# Altium integrated library Renesas Microprocessor SuperH.IntLib: 433 symbols (part 33 of 62)
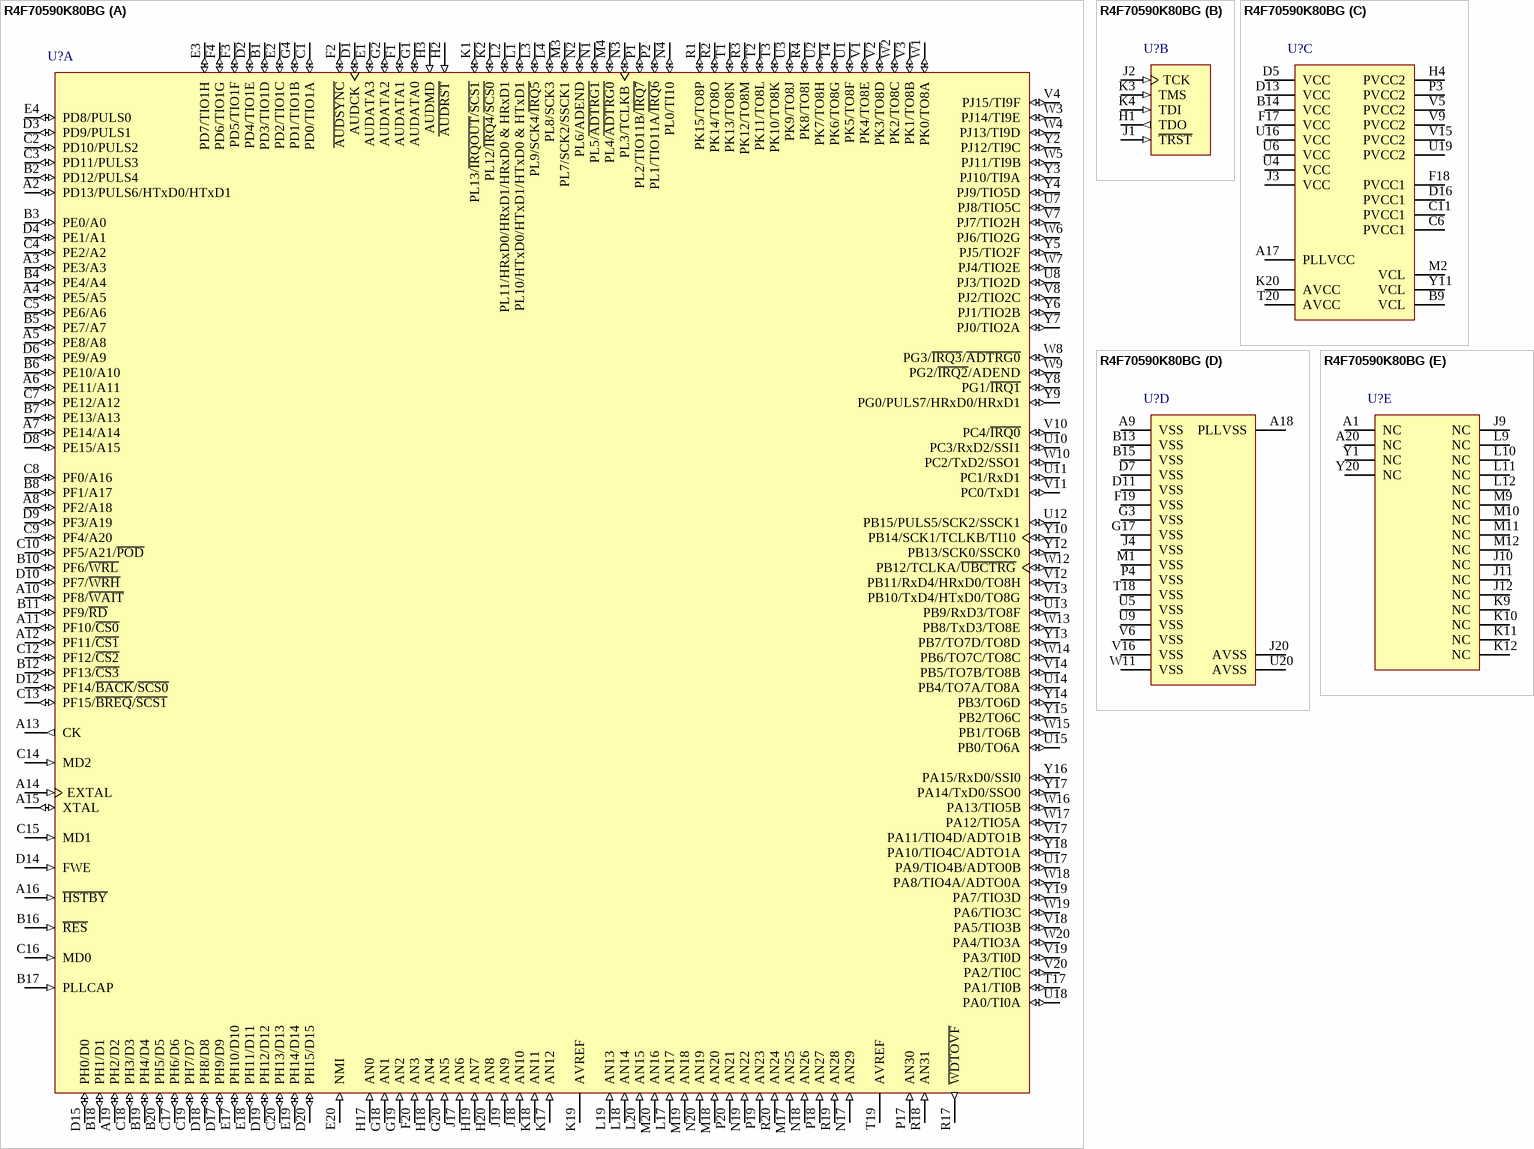
[diagram p302: symbol R4F70590K80BG]

## R4F70590K80BG
designator U?
32-Bit RISC Microcomputer, SH7050 Series, SH-2E core, 80MHz, 1.5M ROM, 80K RAM, 272-pin PBGA, -40 to 125°C; Published: 28-Aug-2009; DatasheetVersion: Rev.4.00, Mar-2009; PackageVersion: Aug-2007; PackageReference: PRBG0272FA-A; Publisher: Altium Limited; PackageDescription: 272-Ball Plastic Ball Grid Array, 21 x 21 mm Body, 1 mm Pitch; Code_JEITA: P-BGA272-21x21-1.00; ComponentLink1Description: Manufacturer Link; ComponentLink1URL: http://www.renesas.com/fmwk.jsp?cnt=sh7059_root.jsp&fp=/products/mpumcu/superh_family/sh7050_series/sh7059_group/; ComponentLink2Description: Datasheet; ComponentLink2URL: http://documentation.renesas.com/eng/products/mpumcu/rej09b0177_7059_58fhm.pdf; ComponentLink3Description: Packaging Specification; ComponentLink3URL: http://sg.renesas.com/media/products/common_info/package/pdf/ic/code/prbg0272fa_a.pdf
footprint PRBG0272FA-A (BGA, 272-Leads, Body 21x21mm, Pitch 1mm)
part A pins: A2 PD13/PULS6/HTxD0/HTxD1 (io), A3 PE3/A3 (io), A4 PE5/A5 (io), A5 PE8/A8 (io), A6 PE11/A11 (io), A7 PE14/A14 (io), A8 PF2/A18 (io), A10 PF8/~{WAIT} (io), A11 PF10/~{CS0} (io), A12 PF11/~{CS1} (io), A13 CK (out), A14 EXTAL (in), A15 XTAL (io), A16 ~{HSTBY} (in), A19 PH2/D2 (io), B1 PD3/TIO1D (io), B2 PD12/PULS4 (io), B3 PE0/A0 (io), B4 PE4/A4 (io), B5 PE7/A7 (io), B6 PE10/A10 (io), B7 PE13/A13 (io), B8 PF1/A17 (io), B10 PF6/~{WRL} (io), B11 PF9/~{RD} (io), B12 PF13/~{CS3} (io), B16 ~{RES} (in), B17 PLLCAP (in), B18 PH1/D1 (io), B19 PH4/D4 (io), B20 PH5/D5 (io), C1 PD0/TIO1A (io), C2 PD10/PULS2 (io), C3 PD11/PULS3 (io), C4 PE2/A2 (io), C5 PE6/A6 (io), C7 PE12/A12 (io), C8 PF0/A16 (io), C9 PF4/A20 (io), C10 PF5/A21/~{POD} (io), C12 PF12/~{CS2} (io), C13 PF15/~{BREQ}/~{SCS1} (io), C14 MD2 (in), C15 MD1 (in), C16 MD0 (in), C17 PH6/D6 (io), C18 PH3/D3 (io), C19 PH7/D7 (io), C20 PH13/D13 (io), D1 AUDCK (io), D2 PD4/TIO1E (io), D3 PD9/PULS1 (io), D4 PE1/A1 (io), D6 PE9/A9 (io), D8 PE15/A15 (io), D9 PF3/A19 (io), D10 PF7/~{WRH} (io), D12 PF14/~{BACK}/~{SCS0} (io), D14 FWE (in), D15 PH0/D0 (io), D17 PH9/D9 (io), D18 PH8/D8 (io), D19 PH12/D12 (io), D20 PH15/D15 (io), E1 AUDATA3 (io), E2 PD2/TIO1C (io), E3 PD7/TIO1H (io), E4 PD8/PULS0 (io), E17 PH10/D10 (io), E18 PH11/D11 (io), E19 PH14/D14 (io), E20 NMI (in), F1 AUDATA1 (io), F2 ~{AUDSYNC} (io), F3 PD5/TIO1F (io), F4 PD6/TIO1G (io), F20 AN3 (in), G1 AUDATA0 (io), G2 AUDATA2 (io), G4 PD1/TIO1B (io), G18 AN1 (in), G19 AN2 (in), G20 AN5 (in), H2 ~{AUDRST} (in), H3 AUDMD (in), H17 AN0 (in), H18 AN4 (in), H19 AN7 (in), H20 AN8 (in), J17 AN6 (in), J18 AN10 (in), J19 AN9 (in), K1 PL13/~{IRQOUT}/~{SCS1} (io), K2 PL12/~{IRQ4}/~{SCS0} (io), K17 AN12 (in), K18 AN11 (in), K19 AVREF (power), L1 PL10/HTxD0/HTxD1/HTxD0 & HTxD1 (io), L2 PL11/HRxD0/HRxD1/HRxD0 & HRxD1 (io), L3 PL9/SCK4/~{IRQ5} (io), L4 PL8/SCK3 (io), L17 AN17 (in), L18 AN14 (in), L19 AN13 (in), L20 AN15 (in), M3 PL7/SCK2/SSCK1 (io), M4 PL4/~{ADTRG0} (io), M17 AN25 (in), M18 AN20 (in), M19 AN18 (in), M20 AN16 (in), N1 PL5/~{ADTRG1} (io), N2 PL6/ADEND (io), N3 PL3/TCLKB (io), N4 PL0/TI10 (io), N17 AN29 (in), N18 AN26 (in), N19 AN22 (in), N20 AN19 (in), P1 PL2/TIO11B/~{IRQ7} (io), P2 PL1/TIO11A/~{IRQ6} (io), P17 AN30 (in), P18 AN27 (in), P19 AN23 (in), P20 AN21 (in), R1 PK15/TO8P (io), R2 PK14/TO8O (io), R3 PK12/TO8M (io), R4 PK8/TO8I (io), R17 ~{WDTOVF} (out), R18 AN31 (in), R19 AN28 (in), R20 AN24 (in), T1 PK13/TO8N (io), T2 PK11/TO8L (io), T3 PK10/TO8K (io), T4 PK6/TO8G (io), T17 PA1/TI0B (io), T19 AVREF (power), U1 PK5/TO8F (io), U2 PK7/TO8H (io), U3 PK9/TO8J (io), U7 PJ8/TIO5C (io), U8 PJ3/TIO2D (io), U10 PC3/RxD2/SSI1 (io), U11 PC1/RxD1 (io), U12 PB15/PULS5/SCK2/SSCK1 (io), U13 PB9/RxD3/TO8F (io), U14 PB4/TO7A/TO8A (io), U15 PB0/TO6A (io), U17 PA9/TIO4B/ADTO0B (io), U18 PA0/TI0A (io), V1 PK4/TO8E (io), V2 PK3/TO8D (io), V3 PK1/TO8B (io), V4 PJ15/TI9F (io), V7 PJ7/TIO2H (io), V8 PJ2/TIO2C (io), V10 PC4/~{IRQ0} (io), V11 PC0/TxD1 (io), V12 PB11/RxD4/HRxD0/TO8H (io), V13 PB10/TxD4/HTxD0/TO8G (io), V14 PB5/TO7B/TO8B (io), V17 PA11/TIO4D/ADTO1B (io), V18 PA5/TIO3B (io), V19 PA3/TI0D (io), V20 PA2/TI0C (io), W1 PK0/TO8A (io), W2 PK2/TO8C (io), W3 PJ14/TI9E (io), W4 PJ13/TI9D (io), W5 PJ11/TI9B (io), W6 PJ6/TIO2G (io), W7 PJ4/TIO2E (io), W8 PG3/~{IRQ3}/~{ADTRG0} (io), W9 PG2/~{IRQ2}/ADEND (io), W10 PC2/TxD2/SSO1 (io), W12 PB12/TCLKA/~{UBCTRG} (io), W13 PB8/TxD3/TO8E (io), W14 PB6/TO7C/TO8C (io), W15 PB1/TO6B (io), W16 PA13/TIO5B (io), W17 PA12/TIO5A (io), W18 PA8/TIO4A/ADTO0A (io), W19 PA6/TIO3C (io), W20 PA4/TIO3A (io), Y2 PJ12/TI9C (io), Y3 PJ10/TI9A (io), Y4 PJ9/TIO5D (io), Y5 PJ5/TIO2F (io), Y6 PJ1/TIO2B (io), Y7 PJ0/TIO2A (io), Y8 PG1/~{IRQ1} (io), Y9 PG0/PULS7/HRxD0/HRxD1 (io), Y10 PB14/SCK1/TCLKB/TI10 (io), Y12 PB13/SCK0/SSCK0 (io), Y13 PB7/TO7D/TO8D (io), Y14 PB3/TO6D (io), Y15 PB2/TO6C (io), Y16 PA15/RxD0/SSI0 (io), Y17 PA14/TxD0/SSO0 (io), Y18 PA10/TIO4C/ADTO1A (io), Y19 PA7/TIO3D (io)
part B pins: H1 TDO (out), J1 ~{TRST} (in), J2 TCK (in), K3 TMS (in), K4 TDI (in)
part C pins: A17 PLLVCC (power), B9 VCL (power), B14 VCC (power), C6 PVCC1 (power), C11 PVCC1 (power), D5 VCC (power), D13 VCC (power), D16 PVCC1 (power), F17 VCC (power), F18 PVCC1 (power), H4 PVCC2 (power), J3 VCC (power), K20 AVCC (power), M2 VCL (power), P3 PVCC2 (power), T20 AVCC (power), U4 VCC (power), U6 VCC (power), U16 VCC (power), U19 PVCC2 (power), V5 PVCC2 (power), V9 PVCC2 (power), V15 PVCC2 (power), Y11 VCL (power)
part D pins: A9 VSS (power), A18 PLLVSS (power), B13 VSS (power), B15 VSS (power), D7 VSS (power), D11 VSS (power), F19 VSS (power), G3 VSS (power), G17 VSS (power), J4 VSS (power), J20 AVSS (power), M1 VSS (power), P4 VSS (power), T18 VSS (power), U5 VSS (power), U9 VSS (power), U20 AVSS (power), V6 VSS (power), V16 VSS (power), W11 VSS (power)
part E pins: A1 NC, A20 NC, J9 NC, J10 NC, J11 NC, J12 NC, K9 NC, K10 NC, K11 NC, K12 NC, L9 NC, L10 NC, L11 NC, L12 NC, M9 NC, M10 NC, M11 NC, M12 NC, Y1 NC, Y20 NC

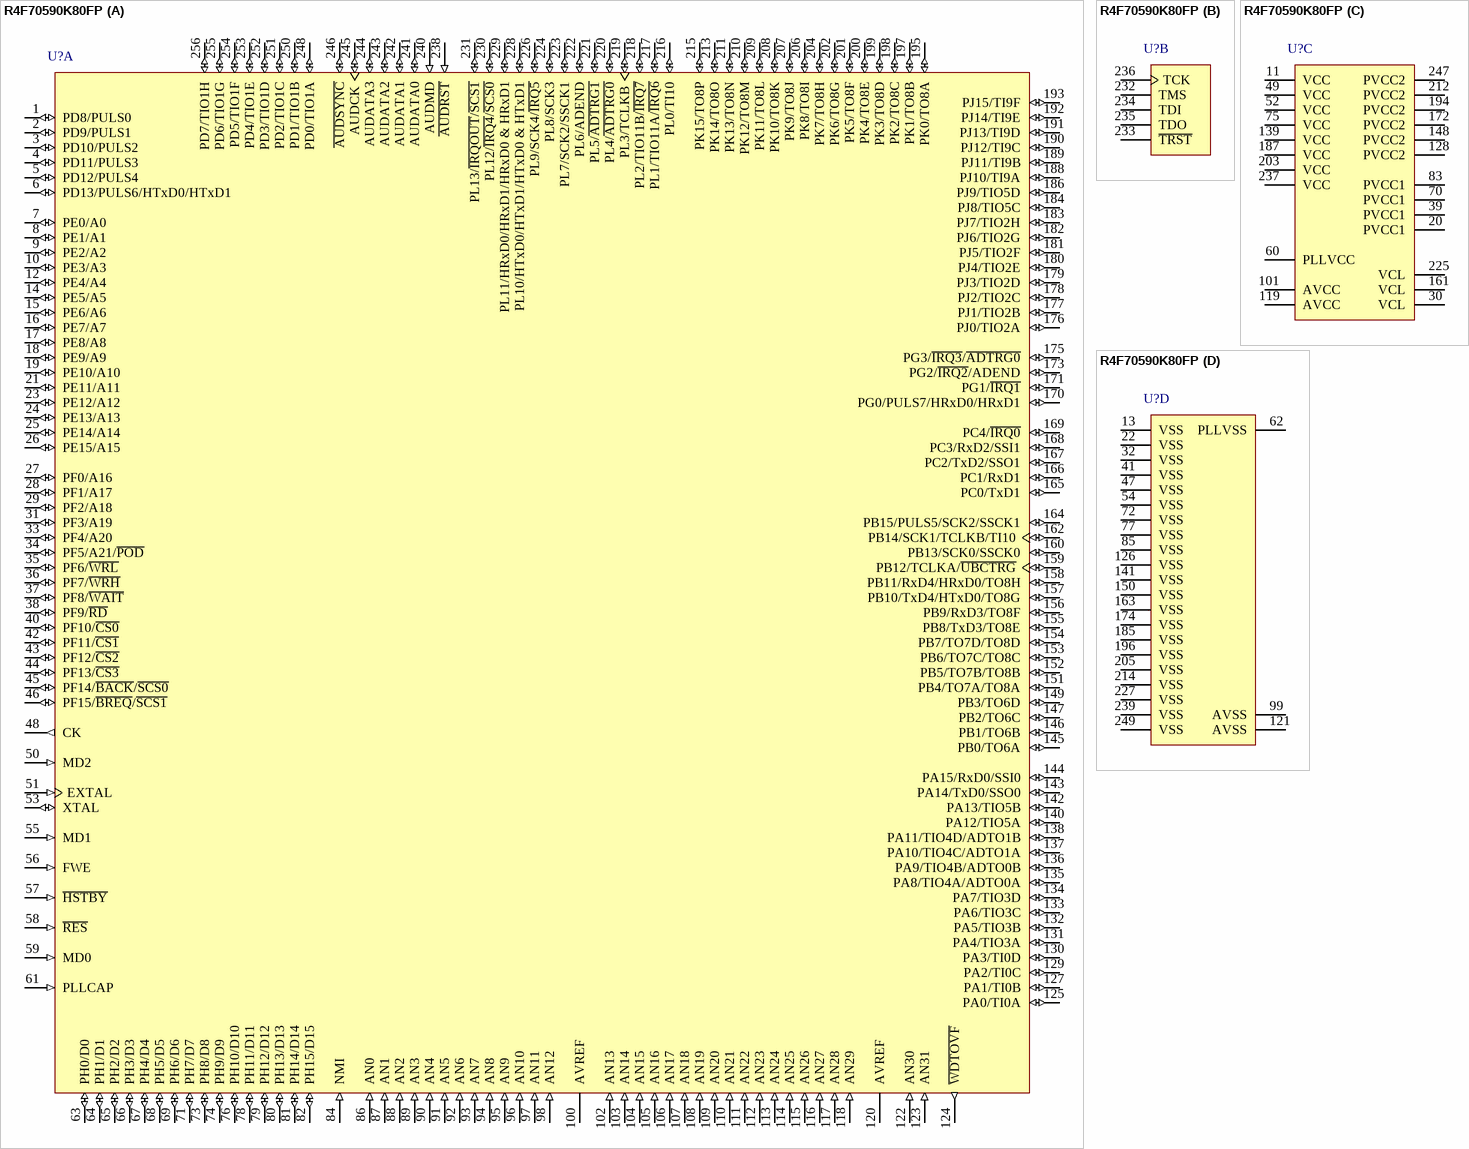
[diagram p119: symbol R4F70590K80FP]

## R4F70590K80FP
designator U?
32-Bit RISC Microcomputer, SH7050 Series, SH-2E core, 80MHz, 1.5M ROM, 80K RAM, 256-pin PQFP, -40 to 125°C; Published: 28-Aug-2009; DatasheetVersion: Rev.4.00, Mar-2009; PackageVersion: Sep-2005; PackageReference: PRQP0256KB-A; Publisher: Altium Limited; PackageDescription: 256-Pin Plastic Quad Flat Pack, 40 x 28 x 3.2 mm Body, 0.5 mm Pitch; Code_JEITA: P-QFP256-28x40-0.50; ComponentLink1Description: Manufacturer Link; ComponentLink1URL: http://www.renesas.com/fmwk.jsp?cnt=sh7059_root.jsp&fp=/products/mpumcu/superh_family/sh7050_series/sh7059_group/; ComponentLink2Description: Datasheet; ComponentLink2URL: http://documentation.renesas.com/eng/products/mpumcu/rej09b0177_7059_58fhm.pdf; ComponentLink3Description: Packaging Specification; ComponentLink3URL: http://sg.renesas.com/media/products/common_info/package/pdf/ic/code/prqp0256kb_a.pdf
footprint PRQP0256KB-A_N (Shrink QFP, 256-Leads, Body 40x28 mm, Pitch 0.5mm, IPC Medium Density)
footprint PRQP0256KB-A_L (Shrink QFP, 256-Leads, Body 40x28 mm, Pitch 0.5mm, IPC High Density)
footprint PRQP0256KB-A_M (Shrink QFP, 256-Leads, Body 40x28 mm, Pitch 0.5mm, IPC Low Density)
part A pins: 1 PD8/PULS0 (io), 2 PD9/PULS1 (io), 3 PD10/PULS2 (io), 4 PD11/PULS3 (io), 5 PD12/PULS4 (io), 6 PD13/PULS6/HTxD0/HTxD1 (io), 7 PE0/A0 (io), 8 PE1/A1 (io), 9 PE2/A2 (io), 10 PE3/A3 (io), 12 PE4/A4 (io), 14 PE5/A5 (io), 15 PE6/A6 (io), 16 PE7/A7 (io), 17 PE8/A8 (io), 18 PE9/A9 (io), 19 PE10/A10 (io), 21 PE11/A11 (io), 23 PE12/A12 (io), 24 PE13/A13 (io), 25 PE14/A14 (io), 26 PE15/A15 (io), 27 PF0/A16 (io), 28 PF1/A17 (io), 29 PF2/A18 (io), 31 PF3/A19 (io), 33 PF4/A20 (io), 34 PF5/A21/~{POD} (io), 35 PF6/~{WRL} (io), 36 PF7/~{WRH} (io), 37 PF8/~{WAIT} (io), 38 PF9/~{RD} (io), 40 PF10/~{CS0} (io), 42 PF11/~{CS1} (io), 43 PF12/~{CS2} (io), 44 PF13/~{CS3} (io), 45 PF14/~{BACK}/~{SCS0} (io), 46 PF15/~{BREQ}/~{SCS1} (io), 48 CK (out), 50 MD2 (in), 51 EXTAL (in), 53 XTAL (io), 55 MD1 (in), 56 FWE (in), 57 ~{HSTBY} (in), 58 ~{RES} (in), 59 MD0 (in), 61 PLLCAP (in), 63 PH0/D0 (io), 64 PH1/D1 (io), 65 PH2/D2 (io), 66 PH3/D3 (io), 67 PH4/D4 (io), 68 PH5/D5 (io), 69 PH6/D6 (io), 71 PH7/D7 (io), 73 PH8/D8 (io), 74 PH9/D9 (io), 76 PH10/D10 (io), 78 PH11/D11 (io), 79 PH12/D12 (io), 80 PH13/D13 (io), 81 PH14/D14 (io), 82 PH15/D15 (io), 84 NMI (in), 86 AN0 (in), 87 AN1 (in), 88 AN2 (in), 89 AN3 (in), 90 AN4 (in), 91 AN5 (in), 92 AN6 (in), 93 AN7 (in), 94 AN8 (in), 95 AN9 (in), 96 AN10 (in), 97 AN11 (in), 98 AN12 (in), 100 AVREF (power), 102 AN13 (in), 103 AN14 (in), 104 AN15 (in), 105 AN16 (in), 106 AN17 (in), 107 AN18 (in), 108 AN19 (in), 109 AN20 (in), 110 AN21 (in), 111 AN22 (in), 112 AN23 (in), 113 AN24 (in), 114 AN25 (in), 115 AN26 (in), 116 AN27 (in), 117 AN28 (in), 118 AN29 (in), 120 AVREF (power), 122 AN30 (in), 123 AN31 (in), 124 ~{WDTOVF} (out), 125 PA0/TI0A (io), 127 PA1/TI0B (io), 129 PA2/TI0C (io), 130 PA3/TI0D (io), 131 PA4/TIO3A (io), 132 PA5/TIO3B (io), 133 PA6/TIO3C (io), 134 PA7/TIO3D (io), 135 PA8/TIO4A/ADTO0A (io), 136 PA9/TIO4B/ADTO0B (io), 137 PA10/TIO4C/ADTO1A (io), 138 PA11/TIO4D/ADTO1B (io), 140 PA12/TIO5A (io), 142 PA13/TIO5B (io), 143 PA14/TxD0/SSO0 (io), 144 PA15/RxD0/SSI0 (io), 145 PB0/TO6A (io), 146 PB1/TO6B (io), 147 PB2/TO6C (io), 149 PB3/TO6D (io), 151 PB4/TO7A/TO8A (io), 152 PB5/TO7B/TO8B (io), 153 PB6/TO7C/TO8C (io), 154 PB7/TO7D/TO8D (io), 155 PB8/TxD3/TO8E (io), 156 PB9/RxD3/TO8F (io), 157 PB10/TxD4/HTxD0/TO8G (io), 158 PB11/RxD4/HRxD0/TO8H (io), 159 PB12/TCLKA/~{UBCTRG} (io), 160 PB13/SCK0/SSCK0 (io), 162 PB14/SCK1/TCLKB/TI10 (io), 164 PB15/PULS5/SCK2/SSCK1 (io), 165 PC0/TxD1 (io), 166 PC1/RxD1 (io), 167 PC2/TxD2/SSO1 (io), 168 PC3/RxD2/SSI1 (io), 169 PC4/~{IRQ0} (io), 170 PG0/PULS7/HRxD0/HRxD1 (io), 171 PG1/~{IRQ1} (io), 173 PG2/~{IRQ2}/ADEND (io), 175 PG3/~{IRQ3}/~{ADTRG0} (io), 176 PJ0/TIO2A (io), 177 PJ1/TIO2B (io), 178 PJ2/TIO2C (io), 179 PJ3/TIO2D (io), 180 PJ4/TIO2E (io), 181 PJ5/TIO2F (io), 182 PJ6/TIO2G (io), 183 PJ7/TIO2H (io), 184 PJ8/TIO5C (io), 186 PJ9/TIO5D (io), 188 PJ10/TI9A (io), 189 PJ11/TI9B (io), 190 PJ12/TI9C (io), 191 PJ13/TI9D (io), 192 PJ14/TI9E (io), 193 PJ15/TI9F (io), 195 PK0/TO8A (io), 197 PK1/TO8B (io), 198 PK2/TO8C (io), 199 PK3/TO8D (io), 200 PK4/TO8E (io), 201 PK5/TO8F (io), 202 PK6/TO8G (io), 204 PK7/TO8H (io), 206 PK8/TO8I (io), 207 PK9/TO8J (io), 208 PK10/TO8K (io), 209 PK11/TO8L (io), 210 PK12/TO8M (io), 211 PK13/TO8N (io), 213 PK14/TO8O (io), 215 PK15/TO8P (io), 216 PL0/TI10 (io), 217 PL1/TIO11A/~{IRQ6} (io), 218 PL2/TIO11B/~{IRQ7} (io), 219 PL3/TCLKB (io), 220 PL4/~{ADTRG0} (io), 221 PL5/~{ADTRG1} (io), 222 PL6/ADEND (io), 223 PL7/SCK2/SSCK1 (io), 224 PL8/SCK3 (io), 226 PL9/SCK4/~{IRQ5} (io), 228 PL10/HTxD0/HTxD1/HTxD0 & HTxD1 (io), 229 PL11/HRxD0/HRxD1/HRxD0 & HRxD1 (io), 230 PL12/~{IRQ4}/~{SCS0} (io), 231 PL13/~{IRQOUT}/~{SCS1} (io), 238 ~{AUDRST} (in), 240 AUDMD (in), 241 AUDATA0 (io), 242 AUDATA1 (io), 243 AUDATA2 (io), 244 AUDATA3 (io), 245 AUDCK (io), 246 ~{AUDSYNC} (io), 248 PD0/TIO1A (io), 250 PD1/TIO1B (io), 251 PD2/TIO1C (io), 252 PD3/TIO1D (io), 253 PD4/TIO1E (io), 254 PD5/TIO1F (io), 255 PD6/TIO1G (io), 256 PD7/TIO1H (io)
part B pins: 232 TMS, 233 ~{TRST}, 234 TDI, 235 TDO, 236 TCK
part C pins: 11 VCC (power), 20 PVCC1 (power), 30 VCL (power), 39 PVCC1 (power), 49 VCC (power), 52 VCC (power), 60 PLLVCC (power), 70 PVCC1 (power), 75 VCC (power), 83 PVCC1 (power), 101 AVCC (power), 119 AVCC (power), 128 PVCC2 (power), 139 VCC (power), 148 PVCC2 (power), 161 VCL (power), 172 PVCC2 (power), 187 VCC (power), 194 PVCC2 (power), 203 VCC (power), 212 PVCC2 (power), 225 VCL (power), 237 VCC (power), 247 PVCC2 (power)
part D pins: 13 VSS (power), 22 VSS (power), 32 VSS (power), 41 VSS (power), 47 VSS (power), 54 VSS (power), 62 PLLVSS (power), 72 VSS (power), 77 VSS (power), 85 VSS (power), 99 AVSS (power), 121 AVSS (power), 126 VSS (power), 141 VSS (power), 150 VSS (power), 163 VSS (power), 174 VSS (power), 185 VSS (power), 196 VSS (power), 205 VSS (power), 214 VSS (power), 227 VSS (power), 239 VSS (power), 249 VSS (power)

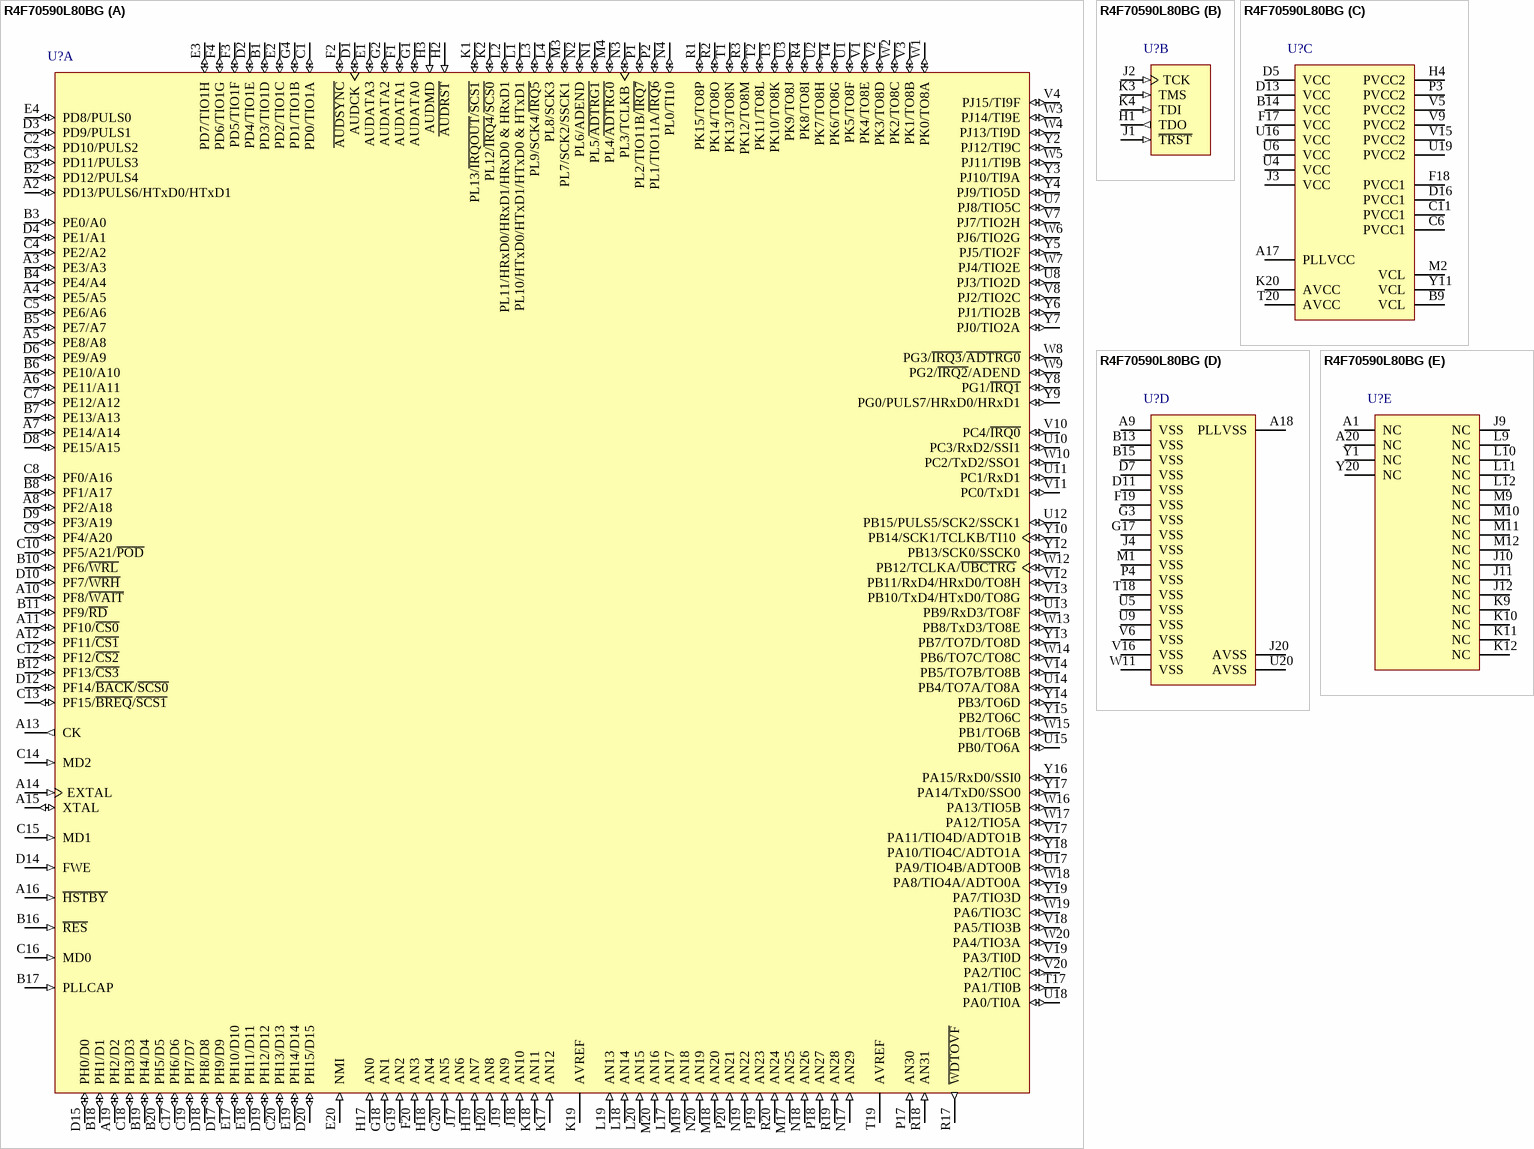
[diagram p120: symbol R4F70590L80BG]

## R4F70590L80BG
designator U?
32-Bit RISC Microcomputer, SH7050 Series, SH-2E core, 80MHz, 1.5M ROM, 80K RAM, 272-pin PBGA, -40 to 125°C; Published: 28-Aug-2009; DatasheetVersion: Rev.4.00, Mar-2009; PackageVersion: Aug-2007; PackageReference: PRBG0272FA-A; Publisher: Altium Limited; PackageDescription: 272-Ball Plastic Ball Grid Array, 21 x 21 mm Body, 1 mm Pitch; Code_JEITA: P-BGA272-21x21-1.00; ComponentLink1Description: Manufacturer Link; ComponentLink1URL: http://www.renesas.com/fmwk.jsp?cnt=sh7059_root.jsp&fp=/products/mpumcu/superh_family/sh7050_series/sh7059_group/; ComponentLink2Description: Datasheet; ComponentLink2URL: http://documentation.renesas.com/eng/products/mpumcu/rej09b0177_7059_58fhm.pdf; ComponentLink3Description: Packaging Specification; ComponentLink3URL: http://sg.renesas.com/media/products/common_info/package/pdf/ic/code/prbg0272fa_a.pdf
footprint PRBG0272FA-A (BGA, 272-Leads, Body 21x21mm, Pitch 1mm)
part A pins: A2 PD13/PULS6/HTxD0/HTxD1 (io), A3 PE3/A3 (io), A4 PE5/A5 (io), A5 PE8/A8 (io), A6 PE11/A11 (io), A7 PE14/A14 (io), A8 PF2/A18 (io), A10 PF8/~{WAIT} (io), A11 PF10/~{CS0} (io), A12 PF11/~{CS1} (io), A13 CK (out), A14 EXTAL (in), A15 XTAL (io), A16 ~{HSTBY} (in), A19 PH2/D2 (io), B1 PD3/TIO1D (io), B2 PD12/PULS4 (io), B3 PE0/A0 (io), B4 PE4/A4 (io), B5 PE7/A7 (io), B6 PE10/A10 (io), B7 PE13/A13 (io), B8 PF1/A17 (io), B10 PF6/~{WRL} (io), B11 PF9/~{RD} (io), B12 PF13/~{CS3} (io), B16 ~{RES} (in), B17 PLLCAP (in), B18 PH1/D1 (io), B19 PH4/D4 (io), B20 PH5/D5 (io), C1 PD0/TIO1A (io), C2 PD10/PULS2 (io), C3 PD11/PULS3 (io), C4 PE2/A2 (io), C5 PE6/A6 (io), C7 PE12/A12 (io), C8 PF0/A16 (io), C9 PF4/A20 (io), C10 PF5/A21/~{POD} (io), C12 PF12/~{CS2} (io), C13 PF15/~{BREQ}/~{SCS1} (io), C14 MD2 (in), C15 MD1 (in), C16 MD0 (in), C17 PH6/D6 (io), C18 PH3/D3 (io), C19 PH7/D7 (io), C20 PH13/D13 (io), D1 AUDCK (io), D2 PD4/TIO1E (io), D3 PD9/PULS1 (io), D4 PE1/A1 (io), D6 PE9/A9 (io), D8 PE15/A15 (io), D9 PF3/A19 (io), D10 PF7/~{WRH} (io), D12 PF14/~{BACK}/~{SCS0} (io), D14 FWE (in), D15 PH0/D0 (io), D17 PH9/D9 (io), D18 PH8/D8 (io), D19 PH12/D12 (io), D20 PH15/D15 (io), E1 AUDATA3 (io), E2 PD2/TIO1C (io), E3 PD7/TIO1H (io), E4 PD8/PULS0 (io), E17 PH10/D10 (io), E18 PH11/D11 (io), E19 PH14/D14 (io), E20 NMI (in), F1 AUDATA1 (io), F2 ~{AUDSYNC} (io), F3 PD5/TIO1F (io), F4 PD6/TIO1G (io), F20 AN3 (in), G1 AUDATA0 (io), G2 AUDATA2 (io), G4 PD1/TIO1B (io), G18 AN1 (in), G19 AN2 (in), G20 AN5 (in), H2 ~{AUDRST} (in), H3 AUDMD (in), H17 AN0 (in), H18 AN4 (in), H19 AN7 (in), H20 AN8 (in), J17 AN6 (in), J18 AN10 (in), J19 AN9 (in), K1 PL13/~{IRQOUT}/~{SCS1} (io), K2 PL12/~{IRQ4}/~{SCS0} (io), K17 AN12 (in), K18 AN11 (in), K19 AVREF (power), L1 PL10/HTxD0/HTxD1/HTxD0 & HTxD1 (io), L2 PL11/HRxD0/HRxD1/HRxD0 & HRxD1 (io), L3 PL9/SCK4/~{IRQ5} (io), L4 PL8/SCK3 (io), L17 AN17 (in), L18 AN14 (in), L19 AN13 (in), L20 AN15 (in), M3 PL7/SCK2/SSCK1 (io), M4 PL4/~{ADTRG0} (io), M17 AN25 (in), M18 AN20 (in), M19 AN18 (in), M20 AN16 (in), N1 PL5/~{ADTRG1} (io), N2 PL6/ADEND (io), N3 PL3/TCLKB (io), N4 PL0/TI10 (io), N17 AN29 (in), N18 AN26 (in), N19 AN22 (in), N20 AN19 (in), P1 PL2/TIO11B/~{IRQ7} (io), P2 PL1/TIO11A/~{IRQ6} (io), P17 AN30 (in), P18 AN27 (in), P19 AN23 (in), P20 AN21 (in), R1 PK15/TO8P (io), R2 PK14/TO8O (io), R3 PK12/TO8M (io), R4 PK8/TO8I (io), R17 ~{WDTOVF} (out), R18 AN31 (in), R19 AN28 (in), R20 AN24 (in), T1 PK13/TO8N (io), T2 PK11/TO8L (io), T3 PK10/TO8K (io), T4 PK6/TO8G (io), T17 PA1/TI0B (io), T19 AVREF (power), U1 PK5/TO8F (io), U2 PK7/TO8H (io), U3 PK9/TO8J (io), U7 PJ8/TIO5C (io), U8 PJ3/TIO2D (io), U10 PC3/RxD2/SSI1 (io), U11 PC1/RxD1 (io), U12 PB15/PULS5/SCK2/SSCK1 (io), U13 PB9/RxD3/TO8F (io), U14 PB4/TO7A/TO8A (io), U15 PB0/TO6A (io), U17 PA9/TIO4B/ADTO0B (io), U18 PA0/TI0A (io), V1 PK4/TO8E (io), V2 PK3/TO8D (io), V3 PK1/TO8B (io), V4 PJ15/TI9F (io), V7 PJ7/TIO2H (io), V8 PJ2/TIO2C (io), V10 PC4/~{IRQ0} (io), V11 PC0/TxD1 (io), V12 PB11/RxD4/HRxD0/TO8H (io), V13 PB10/TxD4/HTxD0/TO8G (io), V14 PB5/TO7B/TO8B (io), V17 PA11/TIO4D/ADTO1B (io), V18 PA5/TIO3B (io), V19 PA3/TI0D (io), V20 PA2/TI0C (io), W1 PK0/TO8A (io), W2 PK2/TO8C (io), W3 PJ14/TI9E (io), W4 PJ13/TI9D (io), W5 PJ11/TI9B (io), W6 PJ6/TIO2G (io), W7 PJ4/TIO2E (io), W8 PG3/~{IRQ3}/~{ADTRG0} (io), W9 PG2/~{IRQ2}/ADEND (io), W10 PC2/TxD2/SSO1 (io), W12 PB12/TCLKA/~{UBCTRG} (io), W13 PB8/TxD3/TO8E (io), W14 PB6/TO7C/TO8C (io), W15 PB1/TO6B (io), W16 PA13/TIO5B (io), W17 PA12/TIO5A (io), W18 PA8/TIO4A/ADTO0A (io), W19 PA6/TIO3C (io), W20 PA4/TIO3A (io), Y2 PJ12/TI9C (io), Y3 PJ10/TI9A (io), Y4 PJ9/TIO5D (io), Y5 PJ5/TIO2F (io), Y6 PJ1/TIO2B (io), Y7 PJ0/TIO2A (io), Y8 PG1/~{IRQ1} (io), Y9 PG0/PULS7/HRxD0/HRxD1 (io), Y10 PB14/SCK1/TCLKB/TI10 (io), Y12 PB13/SCK0/SSCK0 (io), Y13 PB7/TO7D/TO8D (io), Y14 PB3/TO6D (io), Y15 PB2/TO6C (io), Y16 PA15/RxD0/SSI0 (io), Y17 PA14/TxD0/SSO0 (io), Y18 PA10/TIO4C/ADTO1A (io), Y19 PA7/TIO3D (io)
part B pins: H1 TDO (out), J1 ~{TRST} (in), J2 TCK (in), K3 TMS (in), K4 TDI (in)
part C pins: A17 PLLVCC (power), B9 VCL (power), B14 VCC (power), C6 PVCC1 (power), C11 PVCC1 (power), D5 VCC (power), D13 VCC (power), D16 PVCC1 (power), F17 VCC (power), F18 PVCC1 (power), H4 PVCC2 (power), J3 VCC (power), K20 AVCC (power), M2 VCL (power), P3 PVCC2 (power), T20 AVCC (power), U4 VCC (power), U6 VCC (power), U16 VCC (power), U19 PVCC2 (power), V5 PVCC2 (power), V9 PVCC2 (power), V15 PVCC2 (power), Y11 VCL (power)
part D pins: A9 VSS (power), A18 PLLVSS (power), B13 VSS (power), B15 VSS (power), D7 VSS (power), D11 VSS (power), F19 VSS (power), G3 VSS (power), G17 VSS (power), J4 VSS (power), J20 AVSS (power), M1 VSS (power), P4 VSS (power), T18 VSS (power), U5 VSS (power), U9 VSS (power), U20 AVSS (power), V6 VSS (power), V16 VSS (power), W11 VSS (power)
part E pins: A1 NC, A20 NC, J9 NC, J10 NC, J11 NC, J12 NC, K9 NC, K10 NC, K11 NC, K12 NC, L9 NC, L10 NC, L11 NC, L12 NC, M9 NC, M10 NC, M11 NC, M12 NC, Y1 NC, Y20 NC

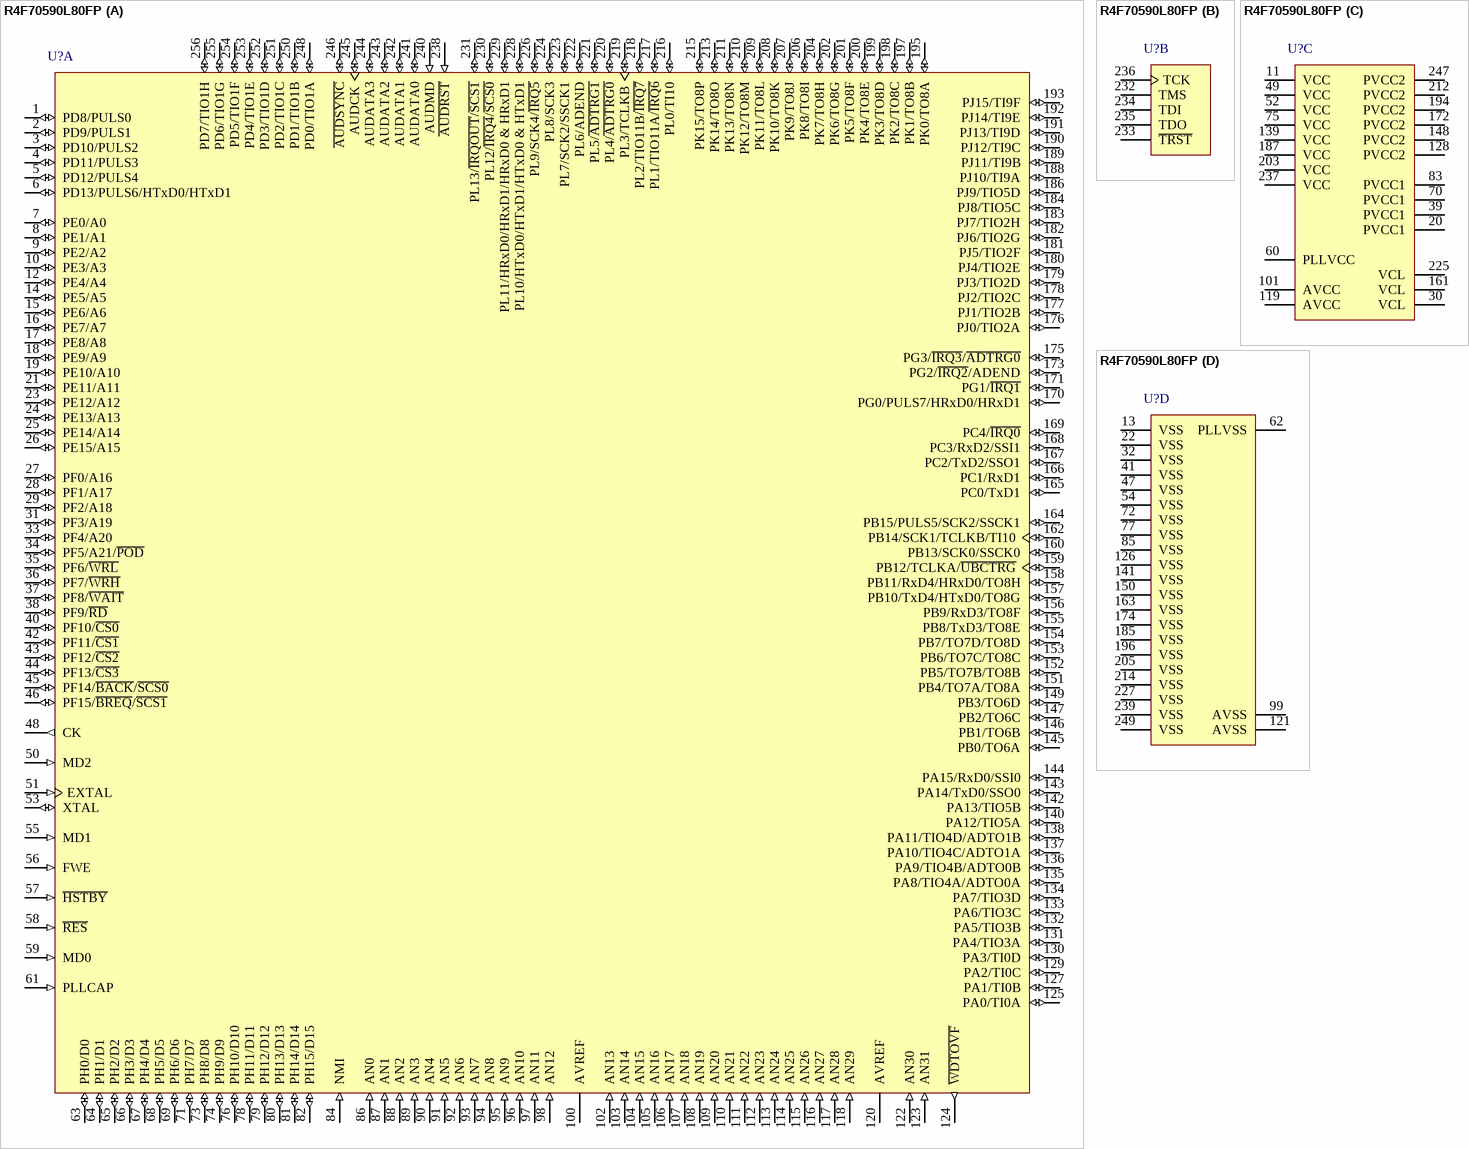
[diagram p121: symbol R4F70590L80FP]

## R4F70590L80FP
designator U?
32-Bit RISC Microcomputer, SH7050 Series, SH-2E core, 80MHz, 1.5M ROM, 80K RAM, 256-pin PQFP, -40 to 125°C; Published: 28-Aug-2009; DatasheetVersion: Rev.4.00, Mar-2009; PackageVersion: Sep-2005; PackageReference: PRQP0256KB-A; Publisher: Altium Limited; PackageDescription: 256-Pin Plastic Quad Flat Pack, 40 x 28 x 3.2 mm Body, 0.5 mm Pitch; Code_JEITA: P-QFP256-28x40-0.50; ComponentLink1Description: Manufacturer Link; ComponentLink1URL: http://www.renesas.com/fmwk.jsp?cnt=sh7059_root.jsp&fp=/products/mpumcu/superh_family/sh7050_series/sh7059_group/; ComponentLink2Description: Datasheet; ComponentLink2URL: http://documentation.renesas.com/eng/products/mpumcu/rej09b0177_7059_58fhm.pdf; ComponentLink3Description: Packaging Specification; ComponentLink3URL: http://sg.renesas.com/media/products/common_info/package/pdf/ic/code/prqp0256kb_a.pdf
footprint PRQP0256KB-A_N (Shrink QFP, 256-Leads, Body 40x28 mm, Pitch 0.5mm, IPC Medium Density)
footprint PRQP0256KB-A_L (Shrink QFP, 256-Leads, Body 40x28 mm, Pitch 0.5mm, IPC High Density)
footprint PRQP0256KB-A_M (Shrink QFP, 256-Leads, Body 40x28 mm, Pitch 0.5mm, IPC Low Density)
part A pins: 1 PD8/PULS0 (io), 2 PD9/PULS1 (io), 3 PD10/PULS2 (io), 4 PD11/PULS3 (io), 5 PD12/PULS4 (io), 6 PD13/PULS6/HTxD0/HTxD1 (io), 7 PE0/A0 (io), 8 PE1/A1 (io), 9 PE2/A2 (io), 10 PE3/A3 (io), 12 PE4/A4 (io), 14 PE5/A5 (io), 15 PE6/A6 (io), 16 PE7/A7 (io), 17 PE8/A8 (io), 18 PE9/A9 (io), 19 PE10/A10 (io), 21 PE11/A11 (io), 23 PE12/A12 (io), 24 PE13/A13 (io), 25 PE14/A14 (io), 26 PE15/A15 (io), 27 PF0/A16 (io), 28 PF1/A17 (io), 29 PF2/A18 (io), 31 PF3/A19 (io), 33 PF4/A20 (io), 34 PF5/A21/~{POD} (io), 35 PF6/~{WRL} (io), 36 PF7/~{WRH} (io), 37 PF8/~{WAIT} (io), 38 PF9/~{RD} (io), 40 PF10/~{CS0} (io), 42 PF11/~{CS1} (io), 43 PF12/~{CS2} (io), 44 PF13/~{CS3} (io), 45 PF14/~{BACK}/~{SCS0} (io), 46 PF15/~{BREQ}/~{SCS1} (io), 48 CK (out), 50 MD2 (in), 51 EXTAL (in), 53 XTAL (io), 55 MD1 (in), 56 FWE (in), 57 ~{HSTBY} (in), 58 ~{RES} (in), 59 MD0 (in), 61 PLLCAP (in), 63 PH0/D0 (io), 64 PH1/D1 (io), 65 PH2/D2 (io), 66 PH3/D3 (io), 67 PH4/D4 (io), 68 PH5/D5 (io), 69 PH6/D6 (io), 71 PH7/D7 (io), 73 PH8/D8 (io), 74 PH9/D9 (io), 76 PH10/D10 (io), 78 PH11/D11 (io), 79 PH12/D12 (io), 80 PH13/D13 (io), 81 PH14/D14 (io), 82 PH15/D15 (io), 84 NMI (in), 86 AN0 (in), 87 AN1 (in), 88 AN2 (in), 89 AN3 (in), 90 AN4 (in), 91 AN5 (in), 92 AN6 (in), 93 AN7 (in), 94 AN8 (in), 95 AN9 (in), 96 AN10 (in), 97 AN11 (in), 98 AN12 (in), 100 AVREF (power), 102 AN13 (in), 103 AN14 (in), 104 AN15 (in), 105 AN16 (in), 106 AN17 (in), 107 AN18 (in), 108 AN19 (in), 109 AN20 (in), 110 AN21 (in), 111 AN22 (in), 112 AN23 (in), 113 AN24 (in), 114 AN25 (in), 115 AN26 (in), 116 AN27 (in), 117 AN28 (in), 118 AN29 (in), 120 AVREF (power), 122 AN30 (in), 123 AN31 (in), 124 ~{WDTOVF} (out), 125 PA0/TI0A (io), 127 PA1/TI0B (io), 129 PA2/TI0C (io), 130 PA3/TI0D (io), 131 PA4/TIO3A (io), 132 PA5/TIO3B (io), 133 PA6/TIO3C (io), 134 PA7/TIO3D (io), 135 PA8/TIO4A/ADTO0A (io), 136 PA9/TIO4B/ADTO0B (io), 137 PA10/TIO4C/ADTO1A (io), 138 PA11/TIO4D/ADTO1B (io), 140 PA12/TIO5A (io), 142 PA13/TIO5B (io), 143 PA14/TxD0/SSO0 (io), 144 PA15/RxD0/SSI0 (io), 145 PB0/TO6A (io), 146 PB1/TO6B (io), 147 PB2/TO6C (io), 149 PB3/TO6D (io), 151 PB4/TO7A/TO8A (io), 152 PB5/TO7B/TO8B (io), 153 PB6/TO7C/TO8C (io), 154 PB7/TO7D/TO8D (io), 155 PB8/TxD3/TO8E (io), 156 PB9/RxD3/TO8F (io), 157 PB10/TxD4/HTxD0/TO8G (io), 158 PB11/RxD4/HRxD0/TO8H (io), 159 PB12/TCLKA/~{UBCTRG} (io), 160 PB13/SCK0/SSCK0 (io), 162 PB14/SCK1/TCLKB/TI10 (io), 164 PB15/PULS5/SCK2/SSCK1 (io), 165 PC0/TxD1 (io), 166 PC1/RxD1 (io), 167 PC2/TxD2/SSO1 (io), 168 PC3/RxD2/SSI1 (io), 169 PC4/~{IRQ0} (io), 170 PG0/PULS7/HRxD0/HRxD1 (io), 171 PG1/~{IRQ1} (io), 173 PG2/~{IRQ2}/ADEND (io), 175 PG3/~{IRQ3}/~{ADTRG0} (io), 176 PJ0/TIO2A (io), 177 PJ1/TIO2B (io), 178 PJ2/TIO2C (io), 179 PJ3/TIO2D (io), 180 PJ4/TIO2E (io), 181 PJ5/TIO2F (io), 182 PJ6/TIO2G (io), 183 PJ7/TIO2H (io), 184 PJ8/TIO5C (io), 186 PJ9/TIO5D (io), 188 PJ10/TI9A (io), 189 PJ11/TI9B (io), 190 PJ12/TI9C (io), 191 PJ13/TI9D (io), 192 PJ14/TI9E (io), 193 PJ15/TI9F (io), 195 PK0/TO8A (io), 197 PK1/TO8B (io), 198 PK2/TO8C (io), 199 PK3/TO8D (io), 200 PK4/TO8E (io), 201 PK5/TO8F (io), 202 PK6/TO8G (io), 204 PK7/TO8H (io), 206 PK8/TO8I (io), 207 PK9/TO8J (io), 208 PK10/TO8K (io), 209 PK11/TO8L (io), 210 PK12/TO8M (io), 211 PK13/TO8N (io), 213 PK14/TO8O (io), 215 PK15/TO8P (io), 216 PL0/TI10 (io), 217 PL1/TIO11A/~{IRQ6} (io), 218 PL2/TIO11B/~{IRQ7} (io), 219 PL3/TCLKB (io), 220 PL4/~{ADTRG0} (io), 221 PL5/~{ADTRG1} (io), 222 PL6/ADEND (io), 223 PL7/SCK2/SSCK1 (io), 224 PL8/SCK3 (io), 226 PL9/SCK4/~{IRQ5} (io), 228 PL10/HTxD0/HTxD1/HTxD0 & HTxD1 (io), 229 PL11/HRxD0/HRxD1/HRxD0 & HRxD1 (io), 230 PL12/~{IRQ4}/~{SCS0} (io), 231 PL13/~{IRQOUT}/~{SCS1} (io), 238 ~{AUDRST} (in), 240 AUDMD (in), 241 AUDATA0 (io), 242 AUDATA1 (io), 243 AUDATA2 (io), 244 AUDATA3 (io), 245 AUDCK (io), 246 ~{AUDSYNC} (io), 248 PD0/TIO1A (io), 250 PD1/TIO1B (io), 251 PD2/TIO1C (io), 252 PD3/TIO1D (io), 253 PD4/TIO1E (io), 254 PD5/TIO1F (io), 255 PD6/TIO1G (io), 256 PD7/TIO1H (io)
part B pins: 232 TMS, 233 ~{TRST}, 234 TDI, 235 TDO, 236 TCK
part C pins: 11 VCC (power), 20 PVCC1 (power), 30 VCL (power), 39 PVCC1 (power), 49 VCC (power), 52 VCC (power), 60 PLLVCC (power), 70 PVCC1 (power), 75 VCC (power), 83 PVCC1 (power), 101 AVCC (power), 119 AVCC (power), 128 PVCC2 (power), 139 VCC (power), 148 PVCC2 (power), 161 VCL (power), 172 PVCC2 (power), 187 VCC (power), 194 PVCC2 (power), 203 VCC (power), 212 PVCC2 (power), 225 VCL (power), 237 VCC (power), 247 PVCC2 (power)
part D pins: 13 VSS (power), 22 VSS (power), 32 VSS (power), 41 VSS (power), 47 VSS (power), 54 VSS (power), 62 PLLVSS (power), 72 VSS (power), 77 VSS (power), 85 VSS (power), 99 AVSS (power), 121 AVSS (power), 126 VSS (power), 141 VSS (power), 150 VSS (power), 163 VSS (power), 174 VSS (power), 185 VSS (power), 196 VSS (power), 205 VSS (power), 214 VSS (power), 227 VSS (power), 239 VSS (power), 249 VSS (power)

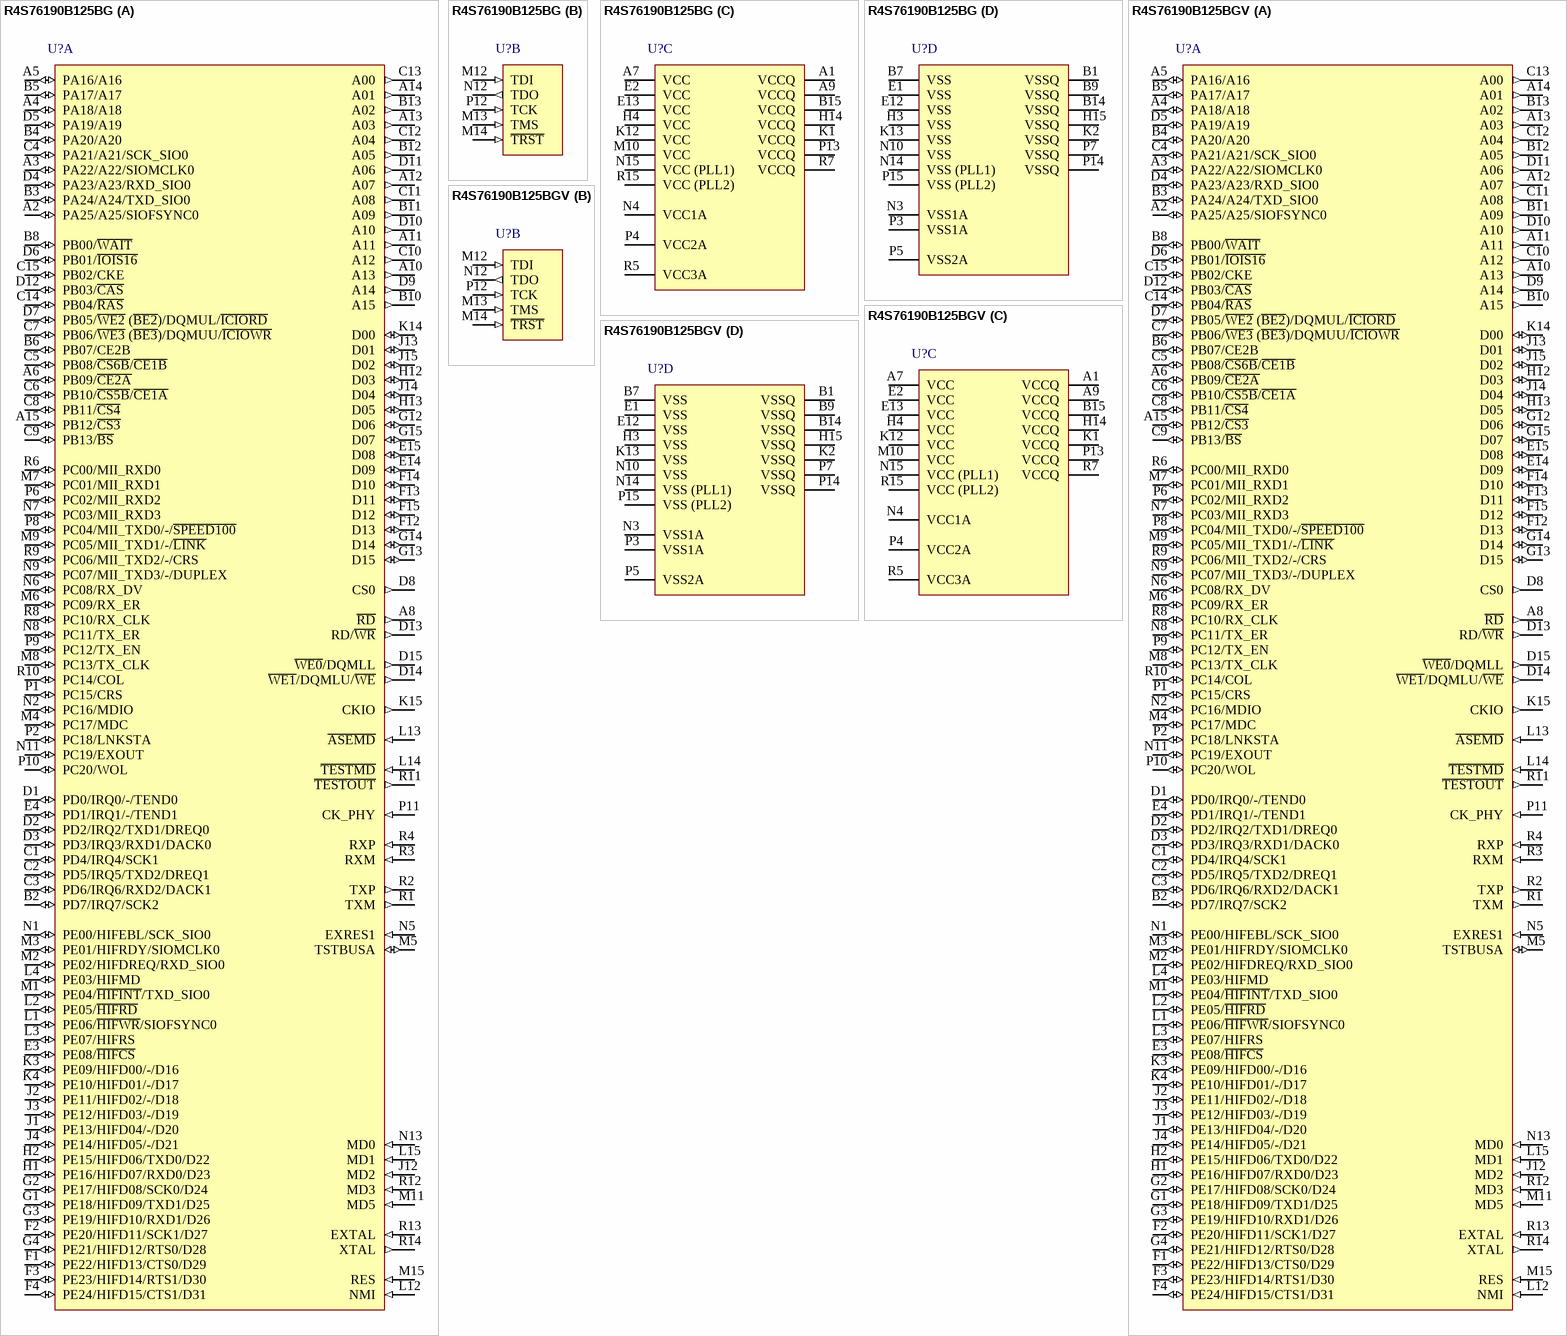
[diagram p122: symbols R4S76190B125BG to R4S76190B125BGV]

## R4S76190B125BG
designator U?
32-Bit RISC Microcomputer, SH-Ether Series, SH-2 core, 125MHz, 16K RAM, PLBG0176GA-A (BP-176) Package, -20 to 70°C; Published: 28-Aug-2009; LatestRevisionDate: 15-Feb-2010; LatestRevisionNote: Updated to datasheet revision 6.00 Jul-2009.; DatasheetVersion: Rev.6.00, Jul-2009; PackageVersion: Apr-2006; PackageReference: PLBG0176GA-A; Publisher: Altium Limited; PackageDescription: 176-Ball Plastic Low Profile Fine-Pitch BGA, 13 x 13 mm Body, 0.8 mm Pitch; Code_JEITA: P-LFBGA176-13x13-0.80; ComponentLink1Description: Manufacturer Link; ComponentLink1URL: http://www.renesas.com/fmwk.jsp?cnt=sh7619_root.jsp&fp=/products/mpumcu/superh_family/shether_series/sh7619_group/; ComponentLink2Description: Datasheet; ComponentLink2URL: http://documentation.renesas.com/eng/products/mpumcu/rej09b0237_sh7619.pdf; ComponentLink3Description: Packaging Specification; ComponentLink3URL: http://sg.renesas.com/media/products/common_info/package/pdf/ic/code/plbg0176ga_a.pdf
footprint PLBG0176GA-A (BGA, 176-Leads, Body 13x13mm, Pitch 0.8mm)
part A pins: A2 PA25/A25/SIOFSYNC0 (io), A3 PA22/A22/SIOMCLK0 (io), A4 PA18/A18 (io), A5 PA16/A16 (io), A6 PB09/~{CE2A} (io), A8 ~{RD} (out), A10 A13 (out), A11 (out), A12 A07 (out), A13 A03 (out), A14 A01 (out), A15 PB12/~{CS3} (io), B2 PD7/IRQ7/SCK2 (io), B3 PA24/A24/TXD_SIO0 (io), B4 PA20/A20 (io), B5 PA17/A17 (io), B6 PB07/CE2B (io), B8 PB00/~{WAIT} (io), B10 A15 (out), B11 A09 (out), B12 A05 (out), B13 A02 (out), C1 PD4/IRQ4/SCK1 (io), C2 PD5/IRQ5/TXD2/DREQ1 (io), C3 PD6/IRQ6/RXD2/DACK1 (io), C4 PA21/A21/SCK_SIO0 (io), C5 PB08/~{CS6B}/~{CE1B} (io), C6 PB10/~{CS5B}/~{CE1A} (io), C7 PB06/~{WE3} (~{BE3})/DQMUU/~{ICIOWR} (io), C8 PB11/~{CS4} (io), C9 PB13/~{BS} (io), C10 A12 (out), C11 A08 (out), C12 A04 (out), C13 A00 (out), C14 PB04/~{RAS} (io), C15 PB02/CKE (io), D1 PD0/IRQ0/-/TEND0 (io), D2 PD2/IRQ2/TXD1/DREQ0 (io), D3 PD3/IRQ3/RXD1/DACK0 (io), D4 PA23/A23/RXD_SIO0 (io), D5 PA19/A19 (io), D6 PB01/~{IOIS16} (io), D7 PB05/~{WE2} (~{BE2})/DQMUL/~{ICIORD} (io), D8 CS0 (out), D9 A14 (out), D10 A10 (out), D11 A06 (out), D12 PB03/~{CAS} (io), D13 RD/~{WR} (out), D14 ~{WE1}/DQMLU/~{WE} (out), D15 ~{WE0}/DQMLL (out), E3 PE08/~{HIFCS} (io), E4 PD1/IRQ1/-/TEND1 (io), E14 D09 (io), E15 D08 (io), F1 PE22/HIFD13/CTS0/D29 (io), F2 PE20/HIFD11/SCK1/D27 (io), F3 PE23/HIFD14/RTS1/D30 (io), F4 PE24/HIFD15/CTS1/D31 (io), F12 D13 (io), F13 D11 (io), F14 D10 (io), F15 D12 (io), G1 PE18/HIFD09/TXD1/D25 (io), G2 PE17/HIFD08/SCK0/D24 (io), G3 PE19/HIFD10/RXD1/D26 (io), G4 PE21/HIFD12/RTS0/D28 (io), G12 D06 (io), G13 D15 (io), G14 D14 (io), G15 D07 (io), H1 PE16/HIFD07/RXD0/D23 (io), H2 PE15/HIFD06/TXD0/D22 (io), H12 D03 (io), H13 D05 (io), J1 PE13/HIFD04/-/D20 (io), J2 PE11/HIFD02/-/D18 (io), J3 PE12/HIFD03/-/D19 (io), J4 PE14/HIFD05/-/D21 (io), J12 MD2 (in), J13 D01 (io), J14 D04 (io), J15 D02 (io), K3 PE09/HIFD00/-/D16 (io), K4 PE10/HIFD01/-/D17 (io), K14 D00 (io), K15 CKIO (out), L1 PE06/~{HIFWR}/SIOFSYNC0 (io), L2 PE05/~{HIFRD} (io), L3 PE07/HIFRS (io), L4 PE03/HIFMD (io), L12 NMI (in), L13 ~{ASEMD} (in), L14 ~{TESTMD} (in), L15 MD1 (in), M1 PE04/~{HIFINT}/TXD_SIO0 (io), M2 PE02/HIFDREQ/RXD_SIO0 (io), M3 PE01/HIFRDY/SIOMCLK0 (io), M4 PC17/MDC (io), M5 TSTBUSA (io), M6 PC09/RX_ER (io), M7 PC01/MII_RXD1 (io), M8 PC13/TX_CLK (io), M9 PC05/MII_TXD1/-/~{LINK} (io), M11 MD5 (in), M15 RES (in), N1 PE00/HIFEBL/SCK_SIO0 (io), N2 PC16/MDIO (io), N5 EXRES1 (in), N6 PC08/RX_DV (io), N7 PC03/MII_RXD3 (io), N8 PC11/TX_ER (io), N9 PC07/MII_TXD3/-/DUPLEX (io), N11 PC19/EXOUT (io), N13 MD0 (in), P1 PC15/CRS (io), P2 PC18/LNKSTA (io), P6 PC02/MII_RXD2 (io), P8 PC04/MII_TXD0/-/~{SPEED100} (io), P9 PC12/TX_EN (io), P10 PC20/WOL (io), P11 CK_PHY (in), R1 TXM (out), R2 TXP (out), R3 RXM (in), R4 RXP (in), R6 PC00/MII_RXD0 (io), R8 PC10/RX_CLK (io), R9 PC06/MII_TXD2/-/CRS (io), R10 PC14/COL (io), R11 ~{TESTOUT} (out), R12 MD3 (in), R13 EXTAL (in), R14 XTAL (out)
part B pins: M12 TDI (in), M13 TMS (in), M14 ~{TRST} (in), N12 TDO (out), P12 TCK (in)
part C pins: A1 VCCQ (power), A7 VCC (power), A9 VCCQ (power), B15 VCCQ (power), E2 VCC (power), E13 VCC (power), H4 VCC (power), H14 VCCQ (power), K1 VCCQ (power), K12 VCC (power), M10 VCC (power), N4 VCC1A (power), N15 VCC (PLL1) (power), P4 VCC2A (power), P13 VCCQ (power), R5 VCC3A (power), R7 VCCQ (power), R15 VCC (PLL2) (power)
part D pins: B1 VSSQ (power), B7 VSS (power), B9 VSSQ (power), B14 VSSQ (power), E1 VSS (power), E12 VSS (power), H3 VSS (power), H15 VSSQ (power), K2 VSSQ (power), K13 VSS (power), N3 VSS1A (power), N10 VSS (power), N14 VSS (PLL1) (power), P3 VSS1A (power), P5 VSS2A (power), P7 VSSQ (power), P14 VSSQ (power), P15 VSS (PLL2) (power)

## R4S76190B125BGV
designator U?
32-Bit RISC Microcomputer, SH-Ether Series, SH-2 core, 125MHz, 16K RAM, PLBG0176GA-A (BP-176V) Package, -20 to 70°C; Published: 28-Aug-2009; LatestRevisionDate: 15-Feb-2010; LatestRevisionNote: Updated to datasheet revision 6.00 Jul-2009.; DatasheetVersion: Rev.6.00, Jul-2009; PackageVersion: Apr-2006; PackageReference: PLBG0176GA-A; Publisher: Altium Limited; PackageDescription: 176-Ball Plastic Low Profile Fine-Pitch BGA, 13 x 13 mm Body, 0.8 mm Pitch; Supplier 1: Farnell; Supplier Part Number 1: 1172314; Code_JEITA: P-LFBGA176-13x13-0.80; ComponentLink1Description: Manufacturer Link; ComponentLink1URL: http://www.renesas.com/fmwk.jsp?cnt=sh7619_root.jsp&fp=/products/mpumcu/superh_family/shether_series/sh7619_group/; ComponentLink2Description: Datasheet; ComponentLink2URL: http://documentation.renesas.com/eng/products/mpumcu/rej09b0237_sh7619.pdf; ComponentLink3Description: Packaging Specification; ComponentLink3URL: http://sg.renesas.com/media/products/common_info/package/pdf/ic/code/plbg0176ga_a.pdf
footprint PLBG0176GA-A (BGA, 176-Leads, Body 13x13mm, Pitch 0.8mm)
part A pins: A2 PA25/A25/SIOFSYNC0 (io), A3 PA22/A22/SIOMCLK0 (io), A4 PA18/A18 (io), A5 PA16/A16 (io), A6 PB09/~{CE2A} (io), A8 ~{RD} (out), A10 A13 (out), A11 (out), A12 A07 (out), A13 A03 (out), A14 A01 (out), A15 PB12/~{CS3} (io), B2 PD7/IRQ7/SCK2 (io), B3 PA24/A24/TXD_SIO0 (io), B4 PA20/A20 (io), B5 PA17/A17 (io), B6 PB07/CE2B (io), B8 PB00/~{WAIT} (io), B10 A15 (out), B11 A09 (out), B12 A05 (out), B13 A02 (out), C1 PD4/IRQ4/SCK1 (io), C2 PD5/IRQ5/TXD2/DREQ1 (io), C3 PD6/IRQ6/RXD2/DACK1 (io), C4 PA21/A21/SCK_SIO0 (io), C5 PB08/~{CS6B}/~{CE1B} (io), C6 PB10/~{CS5B}/~{CE1A} (io), C7 PB06/~{WE3} (~{BE3})/DQMUU/~{ICIOWR} (io), C8 PB11/~{CS4} (io), C9 PB13/~{BS} (io), C10 A12 (out), C11 A08 (out), C12 A04 (out), C13 A00 (out), C14 PB04/~{RAS} (io), C15 PB02/CKE (io), D1 PD0/IRQ0/-/TEND0 (io), D2 PD2/IRQ2/TXD1/DREQ0 (io), D3 PD3/IRQ3/RXD1/DACK0 (io), D4 PA23/A23/RXD_SIO0 (io), D5 PA19/A19 (io), D6 PB01/~{IOIS16} (io), D7 PB05/~{WE2} (~{BE2})/DQMUL/~{ICIORD} (io), D8 CS0 (out), D9 A14 (out), D10 A10 (out), D11 A06 (out), D12 PB03/~{CAS} (io), D13 RD/~{WR} (out), D14 ~{WE1}/DQMLU/~{WE} (out), D15 ~{WE0}/DQMLL (out), E3 PE08/~{HIFCS} (io), E4 PD1/IRQ1/-/TEND1 (io), E14 D09 (io), E15 D08 (io), F1 PE22/HIFD13/CTS0/D29 (io), F2 PE20/HIFD11/SCK1/D27 (io), F3 PE23/HIFD14/RTS1/D30 (io), F4 PE24/HIFD15/CTS1/D31 (io), F12 D13 (io), F13 D11 (io), F14 D10 (io), F15 D12 (io), G1 PE18/HIFD09/TXD1/D25 (io), G2 PE17/HIFD08/SCK0/D24 (io), G3 PE19/HIFD10/RXD1/D26 (io), G4 PE21/HIFD12/RTS0/D28 (io), G12 D06 (io), G13 D15 (io), G14 D14 (io), G15 D07 (io), H1 PE16/HIFD07/RXD0/D23 (io), H2 PE15/HIFD06/TXD0/D22 (io), H12 D03 (io), H13 D05 (io), J1 PE13/HIFD04/-/D20 (io), J2 PE11/HIFD02/-/D18 (io), J3 PE12/HIFD03/-/D19 (io), J4 PE14/HIFD05/-/D21 (io), J12 MD2 (in), J13 D01 (io), J14 D04 (io), J15 D02 (io), K3 PE09/HIFD00/-/D16 (io), K4 PE10/HIFD01/-/D17 (io), K14 D00 (io), K15 CKIO (out), L1 PE06/~{HIFWR}/SIOFSYNC0 (io), L2 PE05/~{HIFRD} (io), L3 PE07/HIFRS (io), L4 PE03/HIFMD (io), L12 NMI (in), L13 ~{ASEMD} (in), L14 ~{TESTMD} (in), L15 MD1 (in), M1 PE04/~{HIFINT}/TXD_SIO0 (io), M2 PE02/HIFDREQ/RXD_SIO0 (io), M3 PE01/HIFRDY/SIOMCLK0 (io), M4 PC17/MDC (io), M5 TSTBUSA (io), M6 PC09/RX_ER (io), M7 PC01/MII_RXD1 (io), M8 PC13/TX_CLK (io), M9 PC05/MII_TXD1/-/~{LINK} (io), M11 MD5 (in), M15 RES (in), N1 PE00/HIFEBL/SCK_SIO0 (io), N2 PC16/MDIO (io), N5 EXRES1 (in), N6 PC08/RX_DV (io), N7 PC03/MII_RXD3 (io), N8 PC11/TX_ER (io), N9 PC07/MII_TXD3/-/DUPLEX (io), N11 PC19/EXOUT (io), N13 MD0 (in), P1 PC15/CRS (io), P2 PC18/LNKSTA (io), P6 PC02/MII_RXD2 (io), P8 PC04/MII_TXD0/-/~{SPEED100} (io), P9 PC12/TX_EN (io), P10 PC20/WOL (io), P11 CK_PHY (in), R1 TXM (out), R2 TXP (out), R3 RXM (in), R4 RXP (in), R6 PC00/MII_RXD0 (io), R8 PC10/RX_CLK (io), R9 PC06/MII_TXD2/-/CRS (io), R10 PC14/COL (io), R11 ~{TESTOUT} (out), R12 MD3 (in), R13 EXTAL (in), R14 XTAL (out)
part B pins: M12 TDI (in), M13 TMS (in), M14 ~{TRST} (in), N12 TDO (out), P12 TCK (in)
part C pins: A1 VCCQ (power), A7 VCC (power), A9 VCCQ (power), B15 VCCQ (power), E2 VCC (power), E13 VCC (power), H4 VCC (power), H14 VCCQ (power), K1 VCCQ (power), K12 VCC (power), M10 VCC (power), N4 VCC1A (power), N15 VCC (PLL1) (power), P4 VCC2A (power), P13 VCCQ (power), R5 VCC3A (power), R7 VCCQ (power), R15 VCC (PLL2) (power)
part D pins: B1 VSSQ (power), B7 VSS (power), B9 VSSQ (power), B14 VSSQ (power), E1 VSS (power), E12 VSS (power), H3 VSS (power), H15 VSSQ (power), K2 VSSQ (power), K13 VSS (power), N3 VSS1A (power), N10 VSS (power), N14 VSS (PLL1) (power), P3 VSS1A (power), P5 VSS2A (power), P7 VSSQ (power), P14 VSSQ (power), P15 VSS (PLL2) (power)

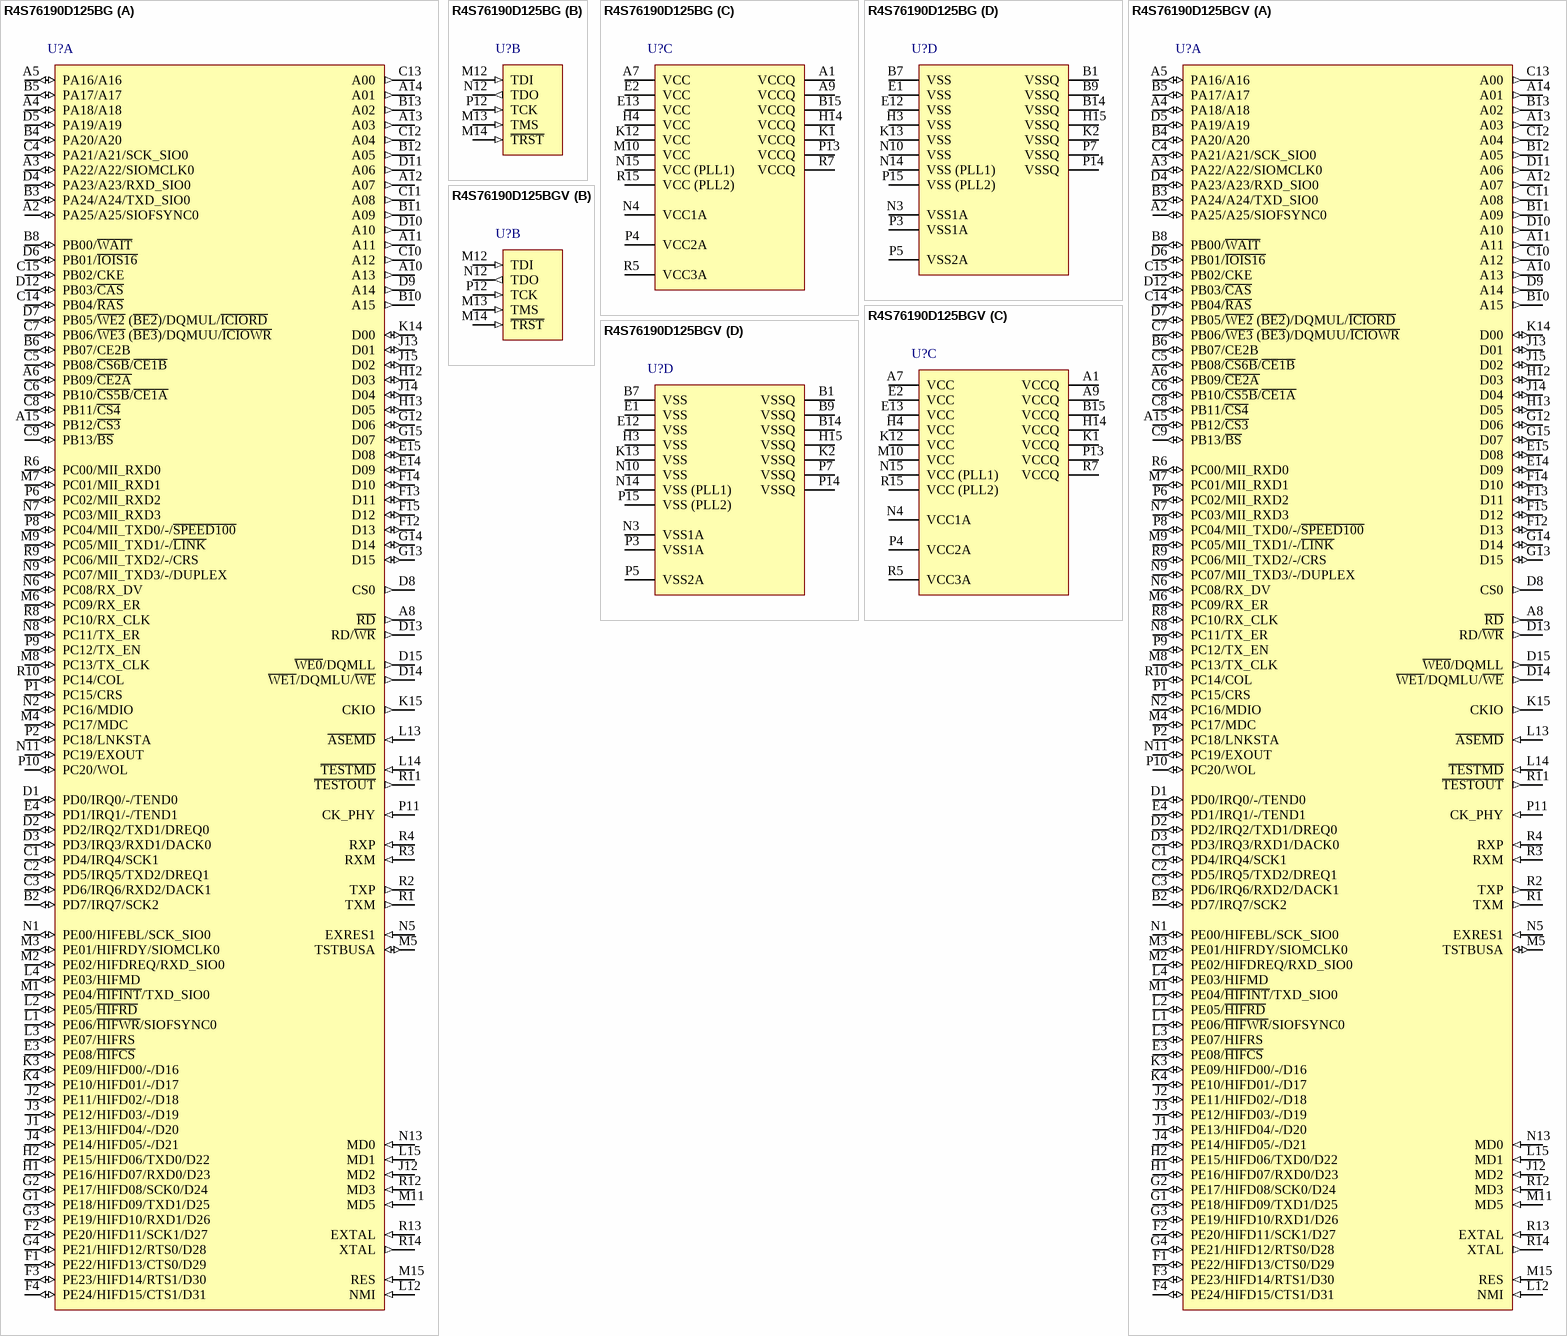
[diagram p123: symbols R4S76190D125BG to R4S76190D125BGV]

## R4S76190D125BG
designator U?
32-Bit RISC Microcomputer, SH-Ether Series, SH-2 core, 125MHz, 16K RAM, PLBG0176GA-A (BP-176) Package, -40 to 85°C; Published: 28-Aug-2009; LatestRevisionDate: 15-Feb-2010; LatestRevisionNote: Updated to datasheet revision 6.00 Jul-2009.; DatasheetVersion: Rev.6.00, Jul-2009; PackageVersion: Apr-2006; PackageReference: PLBG0176GA-A; Publisher: Altium Limited; PackageDescription: 176-Ball Plastic Low Profile Fine-Pitch BGA, 13 x 13 mm Body, 0.8 mm Pitch; Code_JEITA: P-LFBGA176-13x13-0.80; ComponentLink1Description: Manufacturer Link; ComponentLink1URL: http://www.renesas.com/fmwk.jsp?cnt=sh7619_root.jsp&fp=/products/mpumcu/superh_family/shether_series/sh7619_group/; ComponentLink2Description: Datasheet; ComponentLink2URL: http://documentation.renesas.com/eng/products/mpumcu/rej09b0237_sh7619.pdf; ComponentLink3Description: Packaging Specification; ComponentLink3URL: http://sg.renesas.com/media/products/common_info/package/pdf/ic/code/plbg0176ga_a.pdf
footprint PLBG0176GA-A (BGA, 176-Leads, Body 13x13mm, Pitch 0.8mm)
part A pins: A2 PA25/A25/SIOFSYNC0 (io), A3 PA22/A22/SIOMCLK0 (io), A4 PA18/A18 (io), A5 PA16/A16 (io), A6 PB09/~{CE2A} (io), A8 ~{RD} (out), A10 A13 (out), A11 (out), A12 A07 (out), A13 A03 (out), A14 A01 (out), A15 PB12/~{CS3} (io), B2 PD7/IRQ7/SCK2 (io), B3 PA24/A24/TXD_SIO0 (io), B4 PA20/A20 (io), B5 PA17/A17 (io), B6 PB07/CE2B (io), B8 PB00/~{WAIT} (io), B10 A15 (out), B11 A09 (out), B12 A05 (out), B13 A02 (out), C1 PD4/IRQ4/SCK1 (io), C2 PD5/IRQ5/TXD2/DREQ1 (io), C3 PD6/IRQ6/RXD2/DACK1 (io), C4 PA21/A21/SCK_SIO0 (io), C5 PB08/~{CS6B}/~{CE1B} (io), C6 PB10/~{CS5B}/~{CE1A} (io), C7 PB06/~{WE3} (~{BE3})/DQMUU/~{ICIOWR} (io), C8 PB11/~{CS4} (io), C9 PB13/~{BS} (io), C10 A12 (out), C11 A08 (out), C12 A04 (out), C13 A00 (out), C14 PB04/~{RAS} (io), C15 PB02/CKE (io), D1 PD0/IRQ0/-/TEND0 (io), D2 PD2/IRQ2/TXD1/DREQ0 (io), D3 PD3/IRQ3/RXD1/DACK0 (io), D4 PA23/A23/RXD_SIO0 (io), D5 PA19/A19 (io), D6 PB01/~{IOIS16} (io), D7 PB05/~{WE2} (~{BE2})/DQMUL/~{ICIORD} (io), D8 CS0 (out), D9 A14 (out), D10 A10 (out), D11 A06 (out), D12 PB03/~{CAS} (io), D13 RD/~{WR} (out), D14 ~{WE1}/DQMLU/~{WE} (out), D15 ~{WE0}/DQMLL (out), E3 PE08/~{HIFCS} (io), E4 PD1/IRQ1/-/TEND1 (io), E14 D09 (io), E15 D08 (io), F1 PE22/HIFD13/CTS0/D29 (io), F2 PE20/HIFD11/SCK1/D27 (io), F3 PE23/HIFD14/RTS1/D30 (io), F4 PE24/HIFD15/CTS1/D31 (io), F12 D13 (io), F13 D11 (io), F14 D10 (io), F15 D12 (io), G1 PE18/HIFD09/TXD1/D25 (io), G2 PE17/HIFD08/SCK0/D24 (io), G3 PE19/HIFD10/RXD1/D26 (io), G4 PE21/HIFD12/RTS0/D28 (io), G12 D06 (io), G13 D15 (io), G14 D14 (io), G15 D07 (io), H1 PE16/HIFD07/RXD0/D23 (io), H2 PE15/HIFD06/TXD0/D22 (io), H12 D03 (io), H13 D05 (io), J1 PE13/HIFD04/-/D20 (io), J2 PE11/HIFD02/-/D18 (io), J3 PE12/HIFD03/-/D19 (io), J4 PE14/HIFD05/-/D21 (io), J12 MD2 (in), J13 D01 (io), J14 D04 (io), J15 D02 (io), K3 PE09/HIFD00/-/D16 (io), K4 PE10/HIFD01/-/D17 (io), K14 D00 (io), K15 CKIO (out), L1 PE06/~{HIFWR}/SIOFSYNC0 (io), L2 PE05/~{HIFRD} (io), L3 PE07/HIFRS (io), L4 PE03/HIFMD (io), L12 NMI (in), L13 ~{ASEMD} (in), L14 ~{TESTMD} (in), L15 MD1 (in), M1 PE04/~{HIFINT}/TXD_SIO0 (io), M2 PE02/HIFDREQ/RXD_SIO0 (io), M3 PE01/HIFRDY/SIOMCLK0 (io), M4 PC17/MDC (io), M5 TSTBUSA (io), M6 PC09/RX_ER (io), M7 PC01/MII_RXD1 (io), M8 PC13/TX_CLK (io), M9 PC05/MII_TXD1/-/~{LINK} (io), M11 MD5 (in), M15 RES (in), N1 PE00/HIFEBL/SCK_SIO0 (io), N2 PC16/MDIO (io), N5 EXRES1 (in), N6 PC08/RX_DV (io), N7 PC03/MII_RXD3 (io), N8 PC11/TX_ER (io), N9 PC07/MII_TXD3/-/DUPLEX (io), N11 PC19/EXOUT (io), N13 MD0 (in), P1 PC15/CRS (io), P2 PC18/LNKSTA (io), P6 PC02/MII_RXD2 (io), P8 PC04/MII_TXD0/-/~{SPEED100} (io), P9 PC12/TX_EN (io), P10 PC20/WOL (io), P11 CK_PHY (in), R1 TXM (out), R2 TXP (out), R3 RXM (in), R4 RXP (in), R6 PC00/MII_RXD0 (io), R8 PC10/RX_CLK (io), R9 PC06/MII_TXD2/-/CRS (io), R10 PC14/COL (io), R11 ~{TESTOUT} (out), R12 MD3 (in), R13 EXTAL (in), R14 XTAL (out)
part B pins: M12 TDI (in), M13 TMS (in), M14 ~{TRST} (in), N12 TDO (out), P12 TCK (in)
part C pins: A1 VCCQ (power), A7 VCC (power), A9 VCCQ (power), B15 VCCQ (power), E2 VCC (power), E13 VCC (power), H4 VCC (power), H14 VCCQ (power), K1 VCCQ (power), K12 VCC (power), M10 VCC (power), N4 VCC1A (power), N15 VCC (PLL1) (power), P4 VCC2A (power), P13 VCCQ (power), R5 VCC3A (power), R7 VCCQ (power), R15 VCC (PLL2) (power)
part D pins: B1 VSSQ (power), B7 VSS (power), B9 VSSQ (power), B14 VSSQ (power), E1 VSS (power), E12 VSS (power), H3 VSS (power), H15 VSSQ (power), K2 VSSQ (power), K13 VSS (power), N3 VSS1A (power), N10 VSS (power), N14 VSS (PLL1) (power), P3 VSS1A (power), P5 VSS2A (power), P7 VSSQ (power), P14 VSSQ (power), P15 VSS (PLL2) (power)

## R4S76190D125BGV
designator U?
32-Bit RISC Microcomputer, SH-Ether Series, SH-2 core, 125MHz, 16K RAM, PLBG0176GA-A (BP-176V) Package, -40 to 85°C; Published: 28-Aug-2009; LatestRevisionDate: 15-Feb-2010; LatestRevisionNote: Updated to datasheet revision 6.00 Jul-2009.; DatasheetVersion: Rev.6.00, Jul-2009; PackageVersion: Apr-2006; PackageReference: PLBG0176GA-A; Publisher: Altium Limited; PackageDescription: 176-Ball Plastic Low Profile Fine-Pitch BGA, 13 x 13 mm Body, 0.8 mm Pitch; Code_JEITA: P-LFBGA176-13x13-0.80; ComponentLink1Description: Manufacturer Link; ComponentLink1URL: http://www.renesas.com/fmwk.jsp?cnt=sh7619_root.jsp&fp=/products/mpumcu/superh_family/shether_series/sh7619_group/; ComponentLink2Description: Datasheet; ComponentLink2URL: http://documentation.renesas.com/eng/products/mpumcu/rej09b0237_sh7619.pdf; ComponentLink3Description: Packaging Specification; ComponentLink3URL: http://sg.renesas.com/media/products/common_info/package/pdf/ic/code/plbg0176ga_a.pdf
footprint PLBG0176GA-A (BGA, 176-Leads, Body 13x13mm, Pitch 0.8mm)
part A pins: A2 PA25/A25/SIOFSYNC0 (io), A3 PA22/A22/SIOMCLK0 (io), A4 PA18/A18 (io), A5 PA16/A16 (io), A6 PB09/~{CE2A} (io), A8 ~{RD} (out), A10 A13 (out), A11 (out), A12 A07 (out), A13 A03 (out), A14 A01 (out), A15 PB12/~{CS3} (io), B2 PD7/IRQ7/SCK2 (io), B3 PA24/A24/TXD_SIO0 (io), B4 PA20/A20 (io), B5 PA17/A17 (io), B6 PB07/CE2B (io), B8 PB00/~{WAIT} (io), B10 A15 (out), B11 A09 (out), B12 A05 (out), B13 A02 (out), C1 PD4/IRQ4/SCK1 (io), C2 PD5/IRQ5/TXD2/DREQ1 (io), C3 PD6/IRQ6/RXD2/DACK1 (io), C4 PA21/A21/SCK_SIO0 (io), C5 PB08/~{CS6B}/~{CE1B} (io), C6 PB10/~{CS5B}/~{CE1A} (io), C7 PB06/~{WE3} (~{BE3})/DQMUU/~{ICIOWR} (io), C8 PB11/~{CS4} (io), C9 PB13/~{BS} (io), C10 A12 (out), C11 A08 (out), C12 A04 (out), C13 A00 (out), C14 PB04/~{RAS} (io), C15 PB02/CKE (io), D1 PD0/IRQ0/-/TEND0 (io), D2 PD2/IRQ2/TXD1/DREQ0 (io), D3 PD3/IRQ3/RXD1/DACK0 (io), D4 PA23/A23/RXD_SIO0 (io), D5 PA19/A19 (io), D6 PB01/~{IOIS16} (io), D7 PB05/~{WE2} (~{BE2})/DQMUL/~{ICIORD} (io), D8 CS0 (out), D9 A14 (out), D10 A10 (out), D11 A06 (out), D12 PB03/~{CAS} (io), D13 RD/~{WR} (out), D14 ~{WE1}/DQMLU/~{WE} (out), D15 ~{WE0}/DQMLL (out), E3 PE08/~{HIFCS} (io), E4 PD1/IRQ1/-/TEND1 (io), E14 D09 (io), E15 D08 (io), F1 PE22/HIFD13/CTS0/D29 (io), F2 PE20/HIFD11/SCK1/D27 (io), F3 PE23/HIFD14/RTS1/D30 (io), F4 PE24/HIFD15/CTS1/D31 (io), F12 D13 (io), F13 D11 (io), F14 D10 (io), F15 D12 (io), G1 PE18/HIFD09/TXD1/D25 (io), G2 PE17/HIFD08/SCK0/D24 (io), G3 PE19/HIFD10/RXD1/D26 (io), G4 PE21/HIFD12/RTS0/D28 (io), G12 D06 (io), G13 D15 (io), G14 D14 (io), G15 D07 (io), H1 PE16/HIFD07/RXD0/D23 (io), H2 PE15/HIFD06/TXD0/D22 (io), H12 D03 (io), H13 D05 (io), J1 PE13/HIFD04/-/D20 (io), J2 PE11/HIFD02/-/D18 (io), J3 PE12/HIFD03/-/D19 (io), J4 PE14/HIFD05/-/D21 (io), J12 MD2 (in), J13 D01 (io), J14 D04 (io), J15 D02 (io), K3 PE09/HIFD00/-/D16 (io), K4 PE10/HIFD01/-/D17 (io), K14 D00 (io), K15 CKIO (out), L1 PE06/~{HIFWR}/SIOFSYNC0 (io), L2 PE05/~{HIFRD} (io), L3 PE07/HIFRS (io), L4 PE03/HIFMD (io), L12 NMI (in), L13 ~{ASEMD} (in), L14 ~{TESTMD} (in), L15 MD1 (in), M1 PE04/~{HIFINT}/TXD_SIO0 (io), M2 PE02/HIFDREQ/RXD_SIO0 (io), M3 PE01/HIFRDY/SIOMCLK0 (io), M4 PC17/MDC (io), M5 TSTBUSA (io), M6 PC09/RX_ER (io), M7 PC01/MII_RXD1 (io), M8 PC13/TX_CLK (io), M9 PC05/MII_TXD1/-/~{LINK} (io), M11 MD5 (in), M15 RES (in), N1 PE00/HIFEBL/SCK_SIO0 (io), N2 PC16/MDIO (io), N5 EXRES1 (in), N6 PC08/RX_DV (io), N7 PC03/MII_RXD3 (io), N8 PC11/TX_ER (io), N9 PC07/MII_TXD3/-/DUPLEX (io), N11 PC19/EXOUT (io), N13 MD0 (in), P1 PC15/CRS (io), P2 PC18/LNKSTA (io), P6 PC02/MII_RXD2 (io), P8 PC04/MII_TXD0/-/~{SPEED100} (io), P9 PC12/TX_EN (io), P10 PC20/WOL (io), P11 CK_PHY (in), R1 TXM (out), R2 TXP (out), R3 RXM (in), R4 RXP (in), R6 PC00/MII_RXD0 (io), R8 PC10/RX_CLK (io), R9 PC06/MII_TXD2/-/CRS (io), R10 PC14/COL (io), R11 ~{TESTOUT} (out), R12 MD3 (in), R13 EXTAL (in), R14 XTAL (out)
part B pins: M12 TDI (in), M13 TMS (in), M14 ~{TRST} (in), N12 TDO (out), P12 TCK (in)
part C pins: A1 VCCQ (power), A7 VCC (power), A9 VCCQ (power), B15 VCCQ (power), E2 VCC (power), E13 VCC (power), H4 VCC (power), H14 VCCQ (power), K1 VCCQ (power), K12 VCC (power), M10 VCC (power), N4 VCC1A (power), N15 VCC (PLL1) (power), P4 VCC2A (power), P13 VCCQ (power), R5 VCC3A (power), R7 VCCQ (power), R15 VCC (PLL2) (power)
part D pins: B1 VSSQ (power), B7 VSS (power), B9 VSSQ (power), B14 VSSQ (power), E1 VSS (power), E12 VSS (power), H3 VSS (power), H15 VSSQ (power), K2 VSSQ (power), K13 VSS (power), N3 VSS1A (power), N10 VSS (power), N14 VSS (PLL1) (power), P3 VSS1A (power), P5 VSS2A (power), P7 VSSQ (power), P14 VSSQ (power), P15 VSS (PLL2) (power)

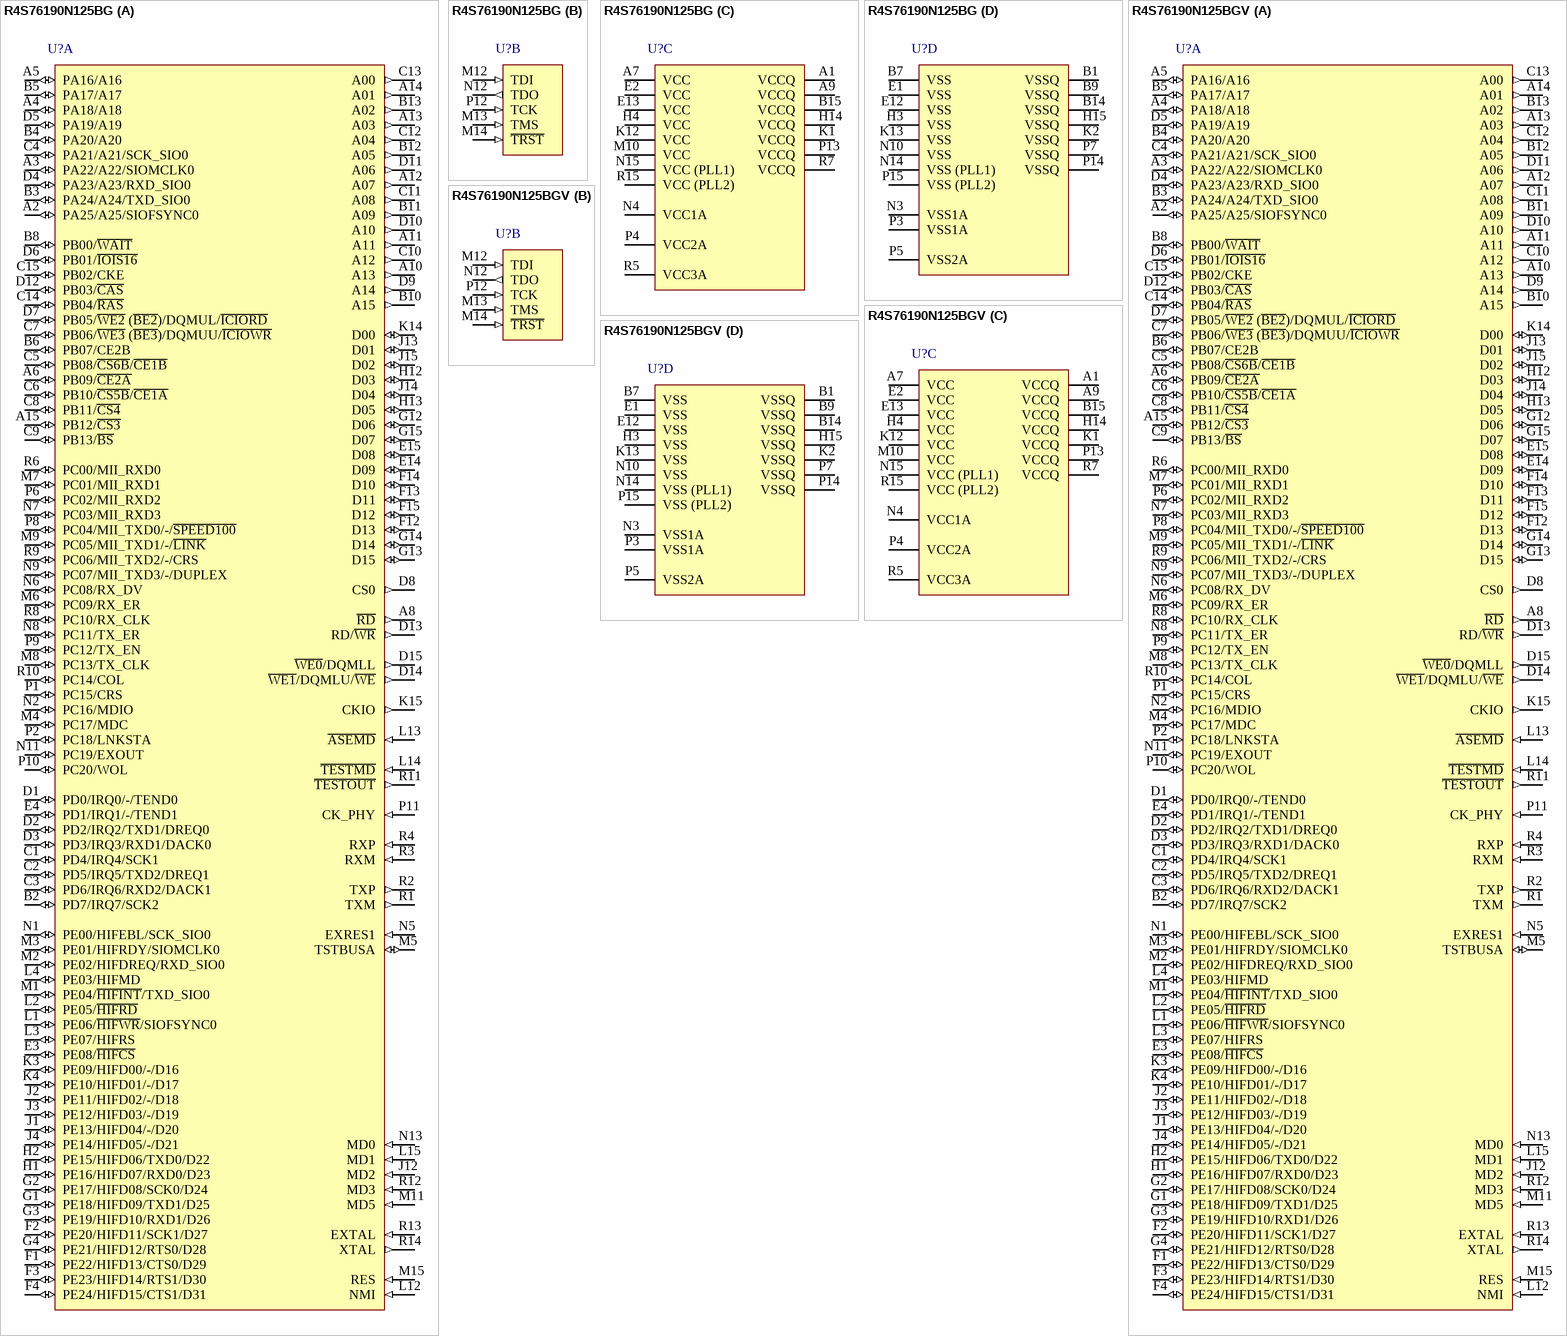
[diagram p124: symbols R4S76190N125BG to R4S76190N125BGV]

## R4S76190N125BG
designator U?
32-Bit RISC Microcomputer, SH-Ether Series, SH-2 core, 125MHz, 16K RAM, PLBG0176GA-A (BP-176) Package, -20 to 85°C; Published: 28-Aug-2009; LatestRevisionDate: 15-Feb-2010; LatestRevisionNote: Updated to datasheet revision 6.00 Jul-2009.; DatasheetVersion: Rev.6.00, Jul-2009; PackageVersion: Apr-2006; PackageReference: PLBG0176GA-A; Publisher: Altium Limited; PackageDescription: 176-Ball Plastic Low Profile Fine-Pitch BGA, 13 x 13 mm Body, 0.8 mm Pitch; Code_JEITA: P-LFBGA176-13x13-0.80; ComponentLink1Description: Manufacturer Link; ComponentLink1URL: http://www.renesas.com/fmwk.jsp?cnt=sh7619_root.jsp&fp=/products/mpumcu/superh_family/shether_series/sh7619_group/; ComponentLink2Description: Datasheet; ComponentLink2URL: http://documentation.renesas.com/eng/products/mpumcu/rej09b0237_sh7619.pdf; ComponentLink3Description: Packaging Specification; ComponentLink3URL: http://sg.renesas.com/media/products/common_info/package/pdf/ic/code/plbg0176ga_a.pdf
footprint PLBG0176GA-A (BGA, 176-Leads, Body 13x13mm, Pitch 0.8mm)
part A pins: A2 PA25/A25/SIOFSYNC0 (io), A3 PA22/A22/SIOMCLK0 (io), A4 PA18/A18 (io), A5 PA16/A16 (io), A6 PB09/~{CE2A} (io), A8 ~{RD} (out), A10 A13 (out), A11 (out), A12 A07 (out), A13 A03 (out), A14 A01 (out), A15 PB12/~{CS3} (io), B2 PD7/IRQ7/SCK2 (io), B3 PA24/A24/TXD_SIO0 (io), B4 PA20/A20 (io), B5 PA17/A17 (io), B6 PB07/CE2B (io), B8 PB00/~{WAIT} (io), B10 A15 (out), B11 A09 (out), B12 A05 (out), B13 A02 (out), C1 PD4/IRQ4/SCK1 (io), C2 PD5/IRQ5/TXD2/DREQ1 (io), C3 PD6/IRQ6/RXD2/DACK1 (io), C4 PA21/A21/SCK_SIO0 (io), C5 PB08/~{CS6B}/~{CE1B} (io), C6 PB10/~{CS5B}/~{CE1A} (io), C7 PB06/~{WE3} (~{BE3})/DQMUU/~{ICIOWR} (io), C8 PB11/~{CS4} (io), C9 PB13/~{BS} (io), C10 A12 (out), C11 A08 (out), C12 A04 (out), C13 A00 (out), C14 PB04/~{RAS} (io), C15 PB02/CKE (io), D1 PD0/IRQ0/-/TEND0 (io), D2 PD2/IRQ2/TXD1/DREQ0 (io), D3 PD3/IRQ3/RXD1/DACK0 (io), D4 PA23/A23/RXD_SIO0 (io), D5 PA19/A19 (io), D6 PB01/~{IOIS16} (io), D7 PB05/~{WE2} (~{BE2})/DQMUL/~{ICIORD} (io), D8 CS0 (out), D9 A14 (out), D10 A10 (out), D11 A06 (out), D12 PB03/~{CAS} (io), D13 RD/~{WR} (out), D14 ~{WE1}/DQMLU/~{WE} (out), D15 ~{WE0}/DQMLL (out), E3 PE08/~{HIFCS} (io), E4 PD1/IRQ1/-/TEND1 (io), E14 D09 (io), E15 D08 (io), F1 PE22/HIFD13/CTS0/D29 (io), F2 PE20/HIFD11/SCK1/D27 (io), F3 PE23/HIFD14/RTS1/D30 (io), F4 PE24/HIFD15/CTS1/D31 (io), F12 D13 (io), F13 D11 (io), F14 D10 (io), F15 D12 (io), G1 PE18/HIFD09/TXD1/D25 (io), G2 PE17/HIFD08/SCK0/D24 (io), G3 PE19/HIFD10/RXD1/D26 (io), G4 PE21/HIFD12/RTS0/D28 (io), G12 D06 (io), G13 D15 (io), G14 D14 (io), G15 D07 (io), H1 PE16/HIFD07/RXD0/D23 (io), H2 PE15/HIFD06/TXD0/D22 (io), H12 D03 (io), H13 D05 (io), J1 PE13/HIFD04/-/D20 (io), J2 PE11/HIFD02/-/D18 (io), J3 PE12/HIFD03/-/D19 (io), J4 PE14/HIFD05/-/D21 (io), J12 MD2 (in), J13 D01 (io), J14 D04 (io), J15 D02 (io), K3 PE09/HIFD00/-/D16 (io), K4 PE10/HIFD01/-/D17 (io), K14 D00 (io), K15 CKIO (out), L1 PE06/~{HIFWR}/SIOFSYNC0 (io), L2 PE05/~{HIFRD} (io), L3 PE07/HIFRS (io), L4 PE03/HIFMD (io), L12 NMI (in), L13 ~{ASEMD} (in), L14 ~{TESTMD} (in), L15 MD1 (in), M1 PE04/~{HIFINT}/TXD_SIO0 (io), M2 PE02/HIFDREQ/RXD_SIO0 (io), M3 PE01/HIFRDY/SIOMCLK0 (io), M4 PC17/MDC (io), M5 TSTBUSA (io), M6 PC09/RX_ER (io), M7 PC01/MII_RXD1 (io), M8 PC13/TX_CLK (io), M9 PC05/MII_TXD1/-/~{LINK} (io), M11 MD5 (in), M15 RES (in), N1 PE00/HIFEBL/SCK_SIO0 (io), N2 PC16/MDIO (io), N5 EXRES1 (in), N6 PC08/RX_DV (io), N7 PC03/MII_RXD3 (io), N8 PC11/TX_ER (io), N9 PC07/MII_TXD3/-/DUPLEX (io), N11 PC19/EXOUT (io), N13 MD0 (in), P1 PC15/CRS (io), P2 PC18/LNKSTA (io), P6 PC02/MII_RXD2 (io), P8 PC04/MII_TXD0/-/~{SPEED100} (io), P9 PC12/TX_EN (io), P10 PC20/WOL (io), P11 CK_PHY (in), R1 TXM (out), R2 TXP (out), R3 RXM (in), R4 RXP (in), R6 PC00/MII_RXD0 (io), R8 PC10/RX_CLK (io), R9 PC06/MII_TXD2/-/CRS (io), R10 PC14/COL (io), R11 ~{TESTOUT} (out), R12 MD3 (in), R13 EXTAL (in), R14 XTAL (out)
part B pins: M12 TDI (in), M13 TMS (in), M14 ~{TRST} (in), N12 TDO (out), P12 TCK (in)
part C pins: A1 VCCQ (power), A7 VCC (power), A9 VCCQ (power), B15 VCCQ (power), E2 VCC (power), E13 VCC (power), H4 VCC (power), H14 VCCQ (power), K1 VCCQ (power), K12 VCC (power), M10 VCC (power), N4 VCC1A (power), N15 VCC (PLL1) (power), P4 VCC2A (power), P13 VCCQ (power), R5 VCC3A (power), R7 VCCQ (power), R15 VCC (PLL2) (power)
part D pins: B1 VSSQ (power), B7 VSS (power), B9 VSSQ (power), B14 VSSQ (power), E1 VSS (power), E12 VSS (power), H3 VSS (power), H15 VSSQ (power), K2 VSSQ (power), K13 VSS (power), N3 VSS1A (power), N10 VSS (power), N14 VSS (PLL1) (power), P3 VSS1A (power), P5 VSS2A (power), P7 VSSQ (power), P14 VSSQ (power), P15 VSS (PLL2) (power)